# Altium schematic symbol library ICs.SchLib: 168 symbols (part 1 of 2)
Pins are listed as number, name and electrical type; pins without a type are passive.

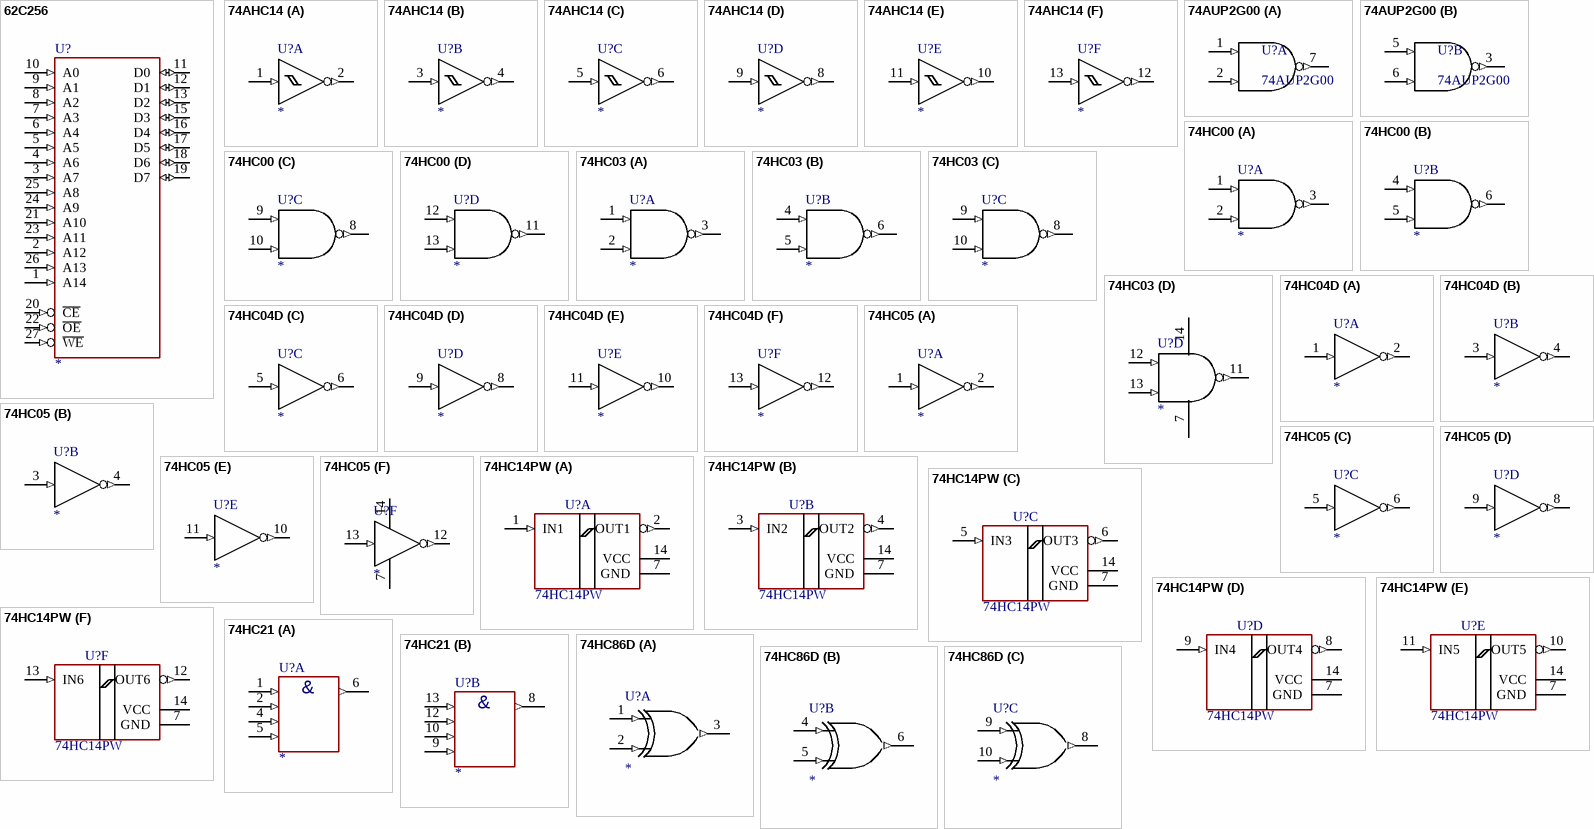
[diagram p0: symbols 62C256 to 74HC86D]

## 62C256
designator U?
32Kx8 Static RAM; Вид: Мікросхема
footprint SO28
pins: 1 A14 (in), 2 A12 (in), 3 A7 (in), 4 A6 (in), 5 A5 (in), 6 A4 (in), 7 A3 (in), 8 A2 (in), 9 A1 (in), 10 A0 (in), 11 D0 (io), 12 D1 (io), 13 D2 (io), 14 GND-D (power) hidden to GND-D, 15 D3 (io), 16 D4 (io), 17 D5 (io), 18 D6 (io), 19 D7 (io), 20 ~{CE} (in), 21 A10 (in), 22 ~{OE} (in), 23 A11 (in), 24 A9 (in), 25 A8 (in), 26 A13 (in), 27 ~{WE} (in), 28 VCC (power) hidden to VCC

## 74AHC14
designator U?
Hex Inverter With Schmitt Trigger; Вид: Мікросхема
footprint SO-14 (SOIC, 14-Leads, Body 8,65x3,90mm, Pitch 1,27mm, IPC Medium Density)
footprint SSOP-14 (TSOP, 14-Leads, Body 5,00x4,40mm, Pitch 0,65mm, IPC Medium Density)
part A pins: 1 A (in), 2 Y (out), 7 GND-D (power) hidden to GND-D, 14 VCC (power) hidden to VCC
part B pins: 3 A (in), 4 Y (out), 7 GND-D (power) hidden to GND-D, 14 VCC (power) hidden to VCC
part C pins: 5 A (in), 6 Y (out), 7 GND-D (power) hidden to GND-D, 14 VCC (power) hidden to VCC
part D pins: 7 GND-D (power) hidden to GND-D, 8 Y (out), 9 A (in), 14 VCC (power) hidden to VCC
part E pins: 7 GND-D (power) hidden to GND-D, 10 Y (out), 11 A (in), 14 VCC (power) hidden to VCC
part F pins: 7 GND-D (power) hidden to GND-D, 12 Y (out), 13 A (in), 14 VCC (power) hidden to VCC

## 74AUP2G00
designator U?
ultra low power dual 2NAND gate; Вид: Мікросхема
footprint SSOP8(SOT505-2) (Small Outline Pkg (SOP), 0.65 mm pitch; 8 pin, 3.00 mm L X 3.00 mm W X 1.10 mm H body)
footprint VSSOP8(SOT765-1) (Small Outline Pkg (SOP), 0.50 mm pitch; 8 pin, 2.00 mm L X 2.30 mm W X 1.00 mm H body)
part A pins: 1 A (in), 2 B (in), 4 GND (power) hidden, 7 Y (out), 8 VCC (power) hidden
part B pins: 3 Y (out), 4 GND (power) hidden, 5 A (in), 6 B (in), 8 VCC (power) hidden

## 74HC00
designator U?
Quadruple 2-Input Positive-NAND Gate; Вид: Мікросхема
footprint SO-14 (SOIC, 14-Leads, Body 8,65x3,90mm, Pitch 1,27mm, IPC Medium Density)
footprint SSOP-14 (TSOP, 14-Leads, Body 5,00x4,40mm, Pitch 0,65mm, IPC Medium Density)
part A pins: 1 A (in), 2 B (in), 3 Y (out), 7 GND-D (power) hidden to GND-D, 14 VCC (power) hidden to VCC
part B pins: 4 A (in), 5 B (in), 6 Y (out), 7 GND-D (power) hidden to GND-D, 14 VCC (power) hidden to VCC
part C pins: 7 GND-D (power) hidden to GND-D, 8 Y (out), 9 A (in), 10 B (in), 14 VCC (power) hidden to VCC
part D pins: 7 GND-D (power) hidden to GND-D, 11 Y (out), 12 A (in), 13 B (in), 14 VCC (power) hidden to VCC

## 74HC03
designator U?
Quadruple 2-Input Positive-NAND Gate; Вид: Мікросхема
footprint SO-14 (SOIC, 14-Leads, Body 8,65x3,90mm, Pitch 1,27mm, IPC Medium Density)
footprint SSOP-14 (TSOP, 14-Leads, Body 5,00x4,40mm, Pitch 0,65mm, IPC Medium Density)
part A pins: 1 A (in), 2 B (in), 3 Y (out)
part B pins: 4 A (in), 5 B (in), 6 Y (out)
part C pins: 8 Y (out), 9 A (in), 10 B (in)
part D pins: 7 GND-D (power), 11 Y (out), 12 A (in), 13 B (in), 14 VCC (power)

## 74HC04D
designator U?
Hex Inverter; Вид: Мікросхема
footprint SO-14 (SOIC, 14-Leads, Body 8,65x3,90mm, Pitch 1,27mm, IPC Medium Density)
footprint SSOP-14 (TSOP, 14-Leads, Body 5,00x4,40mm, Pitch 0,65mm, IPC Medium Density)
part A pins: 1 A (in), 2 Y (out), 7 GND-D (power) hidden to GND-D, 14 VCC (power) hidden to VCC
part B pins: 3 A (in), 4 Y (out), 7 GND-D (power) hidden to GND-D, 14 VCC (power) hidden to VCC
part C pins: 5 A (in), 6 Y (out), 7 GND-D (power) hidden to GND-D, 14 VCC (power) hidden to VCC
part D pins: 7 GND-D (power) hidden to GND-D, 8 Y (out), 9 A (in), 14 VCC (power) hidden to VCC
part E pins: 7 GND-D (power) hidden to GND-D, 10 Y (out), 11 A (in), 14 VCC (power) hidden to VCC
part F pins: 7 GND-D (power) hidden to GND-D, 12 Y (out), 13 A (in), 14 VCC (power) hidden to VCC

## 74HC05
designator U?
Hex Inverter With Open Colector; Вид: Мікросхема
footprint SO-14 (SOIC, 14-Leads, Body 8,65x3,90mm, Pitch 1,27mm, IPC Medium Density)
footprint SSOP-14 (TSOP, 14-Leads, Body 5,00x4,40mm, Pitch 0,65mm, IPC Medium Density)
part A pins: 1 A (in), 2 Y (out)
part B pins: 3 A (in), 4 Y (out)
part C pins: 5 A (in), 6 Y (out)
part D pins: 8 Y (out), 9 A (in)
part E pins: 10 Y (out), 11 A (in)
part F pins: 7 GND-D (power), 12 Y (out), 13 A (in), 14 VCC (power)

## 74HC14PW
designator U?
Hex inverting Schmitt trigger, TSSOP14, Minimum 2V; Вид: Мікросхема
footprint SSOP-14 (TSOP, 14-Leads, Body 5,00x4,40mm, Pitch 0,65mm, IPC Medium Density)
pins on every part: 7 GND (power), 14 VCC (power)
part A pins: 1 IN1 (in), 2 OUT1 (out)
part B pins: 3 IN2 (in), 4 OUT2 (out)
part C pins: 5 IN3 (in), 6 OUT3 (out)
part D pins: 8 OUT4 (out), 9 IN4 (in)
part E pins: 10 OUT5 (out), 11 IN5 (in)
part F pins: 12 OUT6 (out), 13 IN6 (in)

## 74HC21
designator U?
Dual 4-Input Positive-AND Gate; Вид: Мікросхема
footprint SO-14 (SOIC, 14-Leads, Body 8,65x3,90mm, Pitch 1,27mm, IPC Medium Density)
footprint SSOP-14 (TSOP, 14-Leads, Body 5,00x4,40mm, Pitch 0,65mm, IPC Medium Density)
part A pins: 1 A (in), 2 B (in), 4 C (in), 5 D (in), 6 Y (out)
part B pins: 7 GND-D (power) hidden to GND-D, 8 Y (out), 9 A (in), 10 B (in), 12 C (in), 13 D (in), 14 VCC (power) hidden to VCC
part A text: &
part B text: &

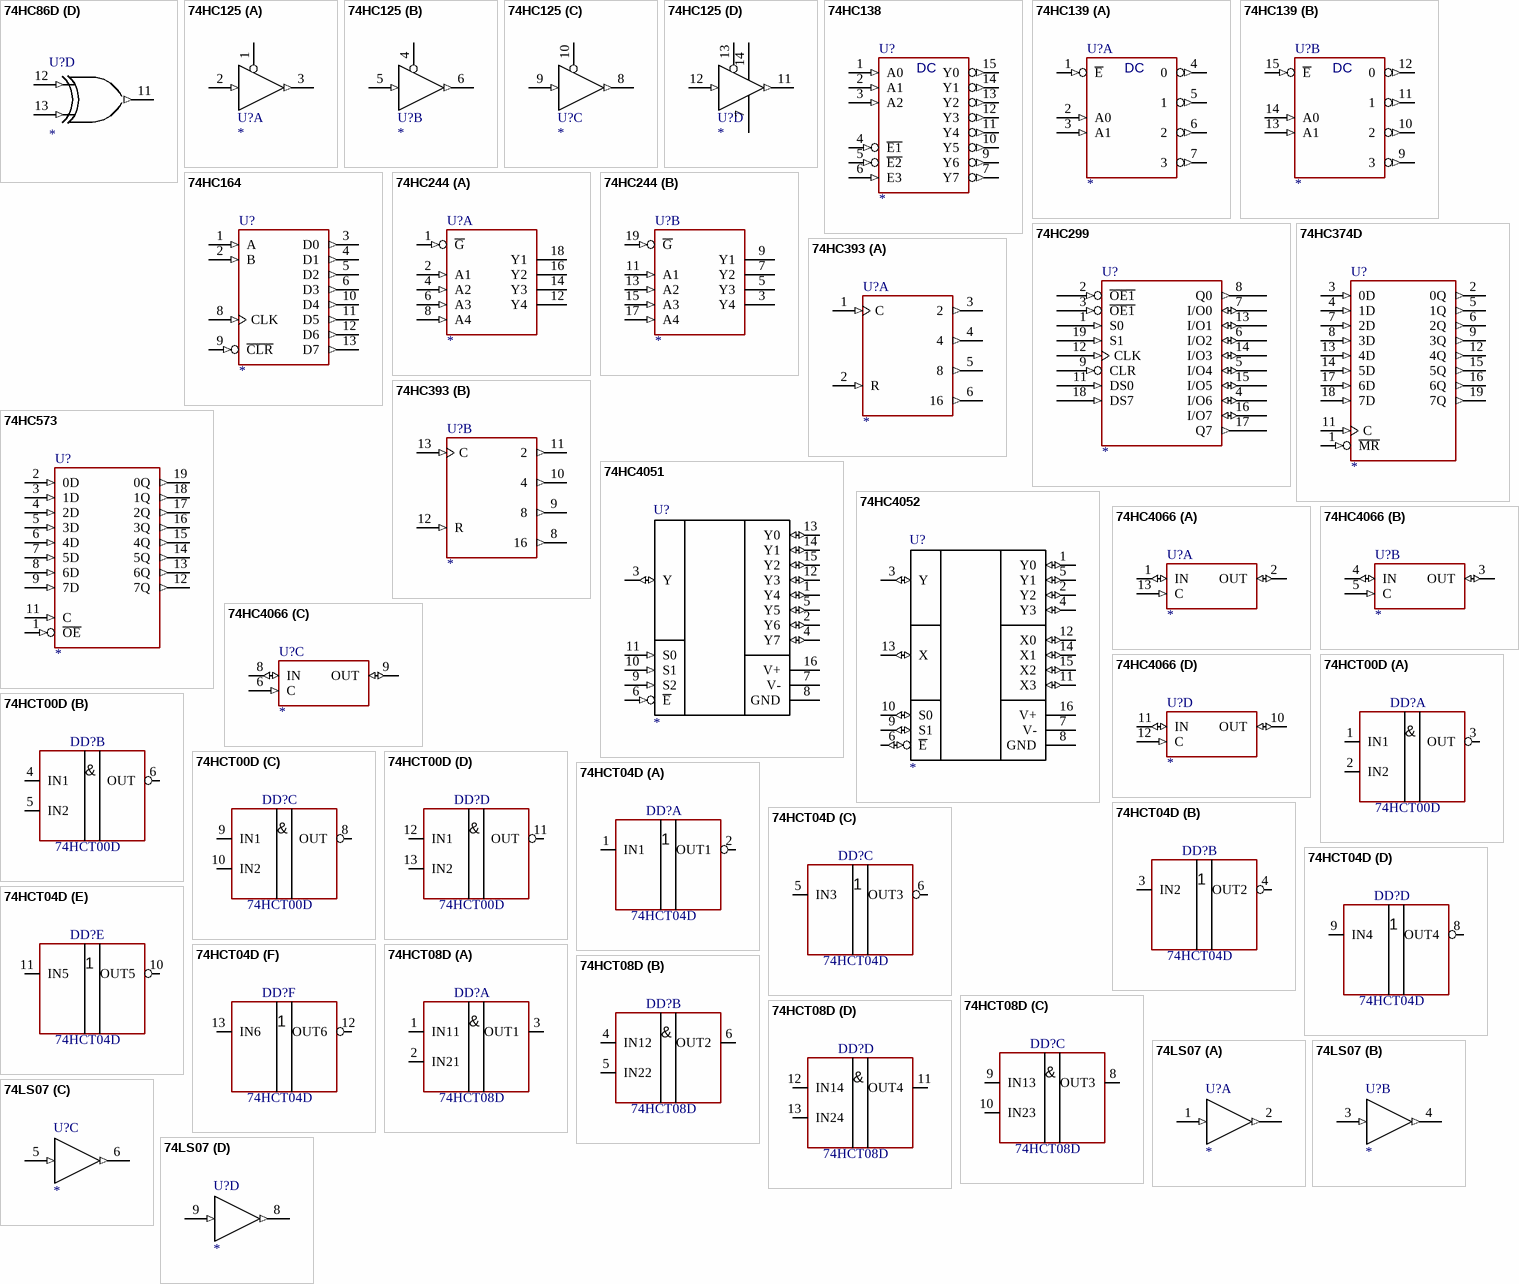
[diagram p1: symbols 74HC86D to 74LS07]

## 74HC86D
designator U?
Quadruple 2-Input Exclusive-OR Gate; Вид: Мікросхема
footprint SO-14 (SOIC, 14-Leads, Body 8,65x3,90mm, Pitch 1,27mm, IPC Medium Density)
footprint SSOP-14 (TSOP, 14-Leads, Body 5,00x4,40mm, Pitch 0,65mm, IPC Medium Density)
part A pins: 1 A (in), 2 B (in), 3 Y (out), 7 GND-D (power) hidden to GND-D, 14 VCC (power) hidden to VCC
part B pins: 4 A (in), 5 B (in), 6 Y (out), 7 GND-D (power) hidden to GND-D, 14 VCC (power) hidden to VCC
part C pins: 7 GND-D (power) hidden to GND-D, 8 Y (out), 9 A (in), 10 B (in), 14 VCC (power) hidden to VCC
part D pins: 7 GND-D (power) hidden to GND-D, 11 Y (out), 12 A (in), 13 B (in), 14 VCC (power) hidden to VCC

## 74HC125
designator U?
Four Buffers with Enable for HiZ state output; Вид: Мікросхема
footprint SO-14 (SOIC, 14-Leads, Body 8,65x3,90mm, Pitch 1,27mm, IPC Medium Density)
footprint SSOP-14 (TSOP, 14-Leads, Body 5,00x4,40mm, Pitch 0,65mm, IPC Medium Density)
part A pins: 1 ~{-Ea}, 2 A (in), 3 Ya (out)
part B pins: 4 ~{-Eb}, 5 B (in), 6 Yb (out)
part C pins: 8 Yc (out), 9 C (in), 10 ~{-Ec}
part D pins: 7 GND-D (power), 11 Yd (out), 12 D (in), 13 ~{-Ed}, 14 VCC (power)

## 74HC138
designator U?
4-Bit Synchronous Up / Down Binary Counter; Вид: Мікросхема
footprint SO-16 (SOIC, 16-Leads, Body 9,90x3,90mm, Pitch 1,27mm, IPC Medium Density)
footprint SSOP-16 (TSOP, 16-Leads, Body 5,00x4,40mm, Pitch 0,65mm, IPC Medium Density)
pins: 1 A0 (in), 2 A1 (in), 3 A2 (in), 4 ~{E1} (in), 5 ~{E2} (in), 6 E3 (in), 7 Y7 (out), 8 GND-D (power) hidden to GND-D, 9 Y6 (out), 10 Y5 (out), 11 Y4 (out), 12 Y3 (out), 13 Y2 (out), 14 Y1 (out), 15 Y0 (out), 16 VCC (power) hidden to VCC
text: DC

## 74HC139
designator U?
4-Bit Synchronous Up / Down Binary Counter; Вид: Мікросхема
footprint SO-16 (SOIC, 16-Leads, Body 9,90x3,90mm, Pitch 1,27mm, IPC Medium Density)
part A pins: 1 ~{E} (in), 2 A0 (in), 3 A1 (in), 4 0 (out), 5 1 (out), 6 2 (out), 7 3 (out), 8 GND-D (power) hidden to GND-D, 16 VCC (power) hidden to VCC
part B pins: 8 GND (power) hidden to GND, 9 3 (out), 10 2 (out), 11 1 (out), 12 0 (out), 13 A1 (in), 14 A0 (in), 15 ~{E} (in), 16 VCC (power) hidden to VCC
part A text: DC
part B text: DC

## 74HC164
designator U?
8-Bit Parallel-Out Serial Shift Register; Вид: Мікросхема
footprint SO-14 (SOIC, 14-Leads, Body 8,65x3,90mm, Pitch 1,27mm, IPC Medium Density)
pins: 1 A (in), 2 B (in), 3 D0 (out), 4 D1 (out), 5 D2 (out), 6 D3 (out), 7 GND-D (power) hidden to GND-D, 8 CLK (in), 9 ~{CLR} (in), 10 D4 (out), 11 D5 (out), 12 D6 (out), 13 D7 (out), 14 VCC (power) hidden to VCC

## 74HC244
designator U?
OCTAL BUF AND LIN DRV; Вид: Мікросхема
footprint SSOP-20 (TSOP, 20-Leads, Body 6,50x4,40mm, Pitch 0,65mm, IPC Medium Density)
part A pins: 1 ~{G} (in), 2 A1 (in), 4 A2 (in), 6 A3 (in), 8 A4 (in), 10 GND-D (power) hidden to GND-D, 12 Y4 (hiz), 14 Y3 (hiz), 16 Y2 (hiz), 18 Y1 (hiz), 20 VCC (power) hidden to VCC
part B pins: 3 Y4 (hiz), 5 Y3 (hiz), 7 Y2 (hiz), 9 Y1 (hiz), 10 GND-D (power) hidden to GND-D, 11 A1 (in), 13 A2 (in), 15 A3 (in), 17 A4 (in), 19 ~{G} (in), 20 VCC (power) hidden to VCC
1 alternate drawing of the same symbol

## 74HC299
designator U?
8-BIT UNIVERSAL SFT/STORAGE REG; Вид: Мікросхема
footprint SSOP-20 (TSOP, 20-Leads, Body 6,50x4,40mm, Pitch 0,65mm, IPC Medium Density)
pins: 1 S0 (in), 2 ~{OE1} (in), 3 ~{OE1} (in), 4 I/O6 (io), 5 I/O4 (io), 6 I/O2 (io), 7 I/O0 (io), 8 Q0 (out), 9 CLR (in), 10 GND (power) hidden to GND, 11 DS0 (in), 12 CLK (in), 13 I/O1 (io), 14 I/O3 (io), 15 I/O5 (io), 16 I/O7 (io), 17 Q7 (out), 18 DS7 (in), 19 S1 (in), 20 VCC (power) hidden to VCC

## 74HC374D
designator U?
Octal D-Type Latch with reset; Вид: Мікросхема
footprint SSOP-20 (TSOP, 20-Leads, Body 6,50x4,40mm, Pitch 0,65mm, IPC Medium Density)
pins: 1 ~{MR} (in), 2 0Q (out), 3 0D (in), 4 1D (in), 5 1Q (out), 6 2Q (out), 7 2D (in), 8 3D (in), 9 3Q (out), 10 GND-D (power) hidden to GND-D, 11 C (in), 12 4Q (out), 13 4D (in), 14 5D (in), 15 5Q (out), 16 6Q (out), 17 6D (in), 18 7D (in), 19 7Q (out), 20 VCC (power) hidden to VCC

## 74HC393
designator U?
Dual 4-Bit Binary Counter; Вид: Мікросхема
footprint SO-14 (SOIC, 14-Leads, Body 8,65x3,90mm, Pitch 1,27mm, IPC Medium Density)
part A pins: 1 C (in), 2 R (in), 3 2 (out), 4 (out), 5 8 (out), 6 16 (out), 7 GND-D (power) hidden to GND-D, 14 VCC (power) hidden to VCC
part B pins: 7 GND-D (power) hidden to GND-D, 8 16 (out), 9 8 (out), 10 4 (out), 11 2 (out), 12 R (in), 13 C (in), 14 VCC (power) hidden to VCC

## 74HC573
designator U?
Octal D-Type Latch with open drine output; Вид: Мікросхема
footprint SSOP-20 (TSOP, 20-Leads, Body 6,50x4,40mm, Pitch 0,65mm, IPC Medium Density)
pins: 1 ~{OE} (in), 2 0D (in), 3 1D (in), 4 2D (in), 5 3D (in), 6 4D (in), 7 5D (in), 8 6D (in), 9 7D (in), 10 GND-D (power) hidden to GND-D, 11 C (in), 12 7Q (out), 13 6Q (out), 14 5Q (out), 15 4Q (out), 16 3Q (out), 17 2Q (out), 18 1Q (out), 19 0Q (out), 20 VCC (power) hidden to VCC

## 74HC4051
designator U?
Single 8-Channel Analog Multiplexer/Demultiplexer; Вид: Мікросхема
footprint SO-16 (SOIC, 16-Leads, Body 9,90x3,90mm, Pitch 1,27mm, IPC Medium Density)
footprint SSOP-16 (TSOP, 16-Leads, Body 5,00x4,40mm, Pitch 0,65mm, IPC Medium Density)
pins: 1 Y4 (io), 2 Y6 (io), 3 Y (io), 4 Y7 (io), 5 Y5 (io), 6 ~{E} (in), 7 V- (power), 8 GND (power), 9 S2 (in), 10 S1 (in), 11 S0 (in), 12 Y3 (io), 13 Y0 (io), 14 Y1 (io), 15 Y2 (io), 16 V+ (power)

## 74HC4052
designator U?
Dual 4-Channel Analog Multiplexer/Demultiplexer; Вид: Мікросхема
footprint SO-16 (SOIC, 16-Leads, Body 9,90x3,90mm, Pitch 1,27mm, IPC Medium Density)
footprint SSOP-16 (TSOP, 16-Leads, Body 5,00x4,40mm, Pitch 0,65mm, IPC Medium Density)
pins: 1 Y0 (io), 2 Y2 (io), 3 Y (io), 4 Y3 (io), 5 Y1 (io), 6 ~{E} (io), 7 V- (power), 8 GND (power), 9 S1 (io), 10 S0 (io), 11 X3 (io), 12 X0 (io), 13 X (io), 14 X1 (io), 15 X2 (io), 16 V+ (power)

## 74HC4066
designator U?
QUAD ANALOG SWITCH; Вид: Мікросхема
footprint SO-14 (SOIC, 14-Leads, Body 8,65x3,90mm, Pitch 1,27mm, IPC Medium Density)
part A pins: 1 IN (io), 2 OUT (io), 7 GND-D (power) hidden to GND-D, 13 C (in), 14 VCC (power) hidden to VCC
part B pins: 3 OUT (io), 4 IN (io), 5 C (in), 7 GND-D (power) hidden to GND-D, 14 VCC (power) hidden to VCC
part C pins: 6 C (in), 7 GND-D (power) hidden to GND-D, 8 IN (io), 9 OUT (io), 14 VCC (power) hidden to VCC
part D pins: 7 GND-D (power) hidden to GND-D, 10 OUT (io), 11 IN (io), 12 C (in), 14 VCC (power) hidden to VCC
1 alternate drawing of the same symbol

## 74HCT00D
designator DD?
quad 2-input NAND gate, SOIC; Вид: Мікросхема
footprint SO-14 (SOIC, 14-Leads, Body 8,65x3,90mm, Pitch 1,27mm, IPC Medium Density)
pins on every part: 7 GND (power) hidden to GND, 14 VCC (power) hidden to +5V_drv
part A pins: 1 IN1, 2 IN2, 3 OUT
part B pins: 4 IN1, 5 IN2, 6 OUT
part C pins: 8 OUT, 9 IN1, 10 IN2
part D pins: 11 OUT, 12 IN1, 13 IN2
part A text: &
part B text: &
part C text: &
part D text: &

## 74HCT04D
designator DD?
Hex inverter, SOIC; Вид: Мікросхема
footprint SO-14 (SOIC, 14-Leads, Body 8,65x3,90mm, Pitch 1,27mm, IPC Medium Density)
pins on every part: 7 GND (power) hidden to GND, 14 VCC (power) hidden to +5V_drv
part A pins: 1 IN1, 2 OUT1
part B pins: 3 IN2, 4 OUT2
part C pins: 5 IN3, 6 OUT3
part D pins: 8 OUT4, 9 IN4
part E pins: 10 OUT5, 11 IN5
part F pins: 12 OUT6, 13 IN6

## 74HCT08D
designator DD?
quad 2-input AND gate, SOIC; Вид: Мікросхема
footprint SO-14 (SOIC, 14-Leads, Body 8,65x3,90mm, Pitch 1,27mm, IPC Medium Density)
pins on every part: 7 GND (power) hidden to GND, 14 VCC (power) hidden to +5V_drv
part A pins: 1 IN11, 2 IN21, 3 OUT1
part B pins: 4 IN12, 5 IN22, 6 OUT2
part C pins: 8 OUT3, 9 IN13, 10 IN23
part D pins: 11 OUT4, 12 IN14, 13 IN24
part A text: &
part B text: &
part C text: &
part D text: &

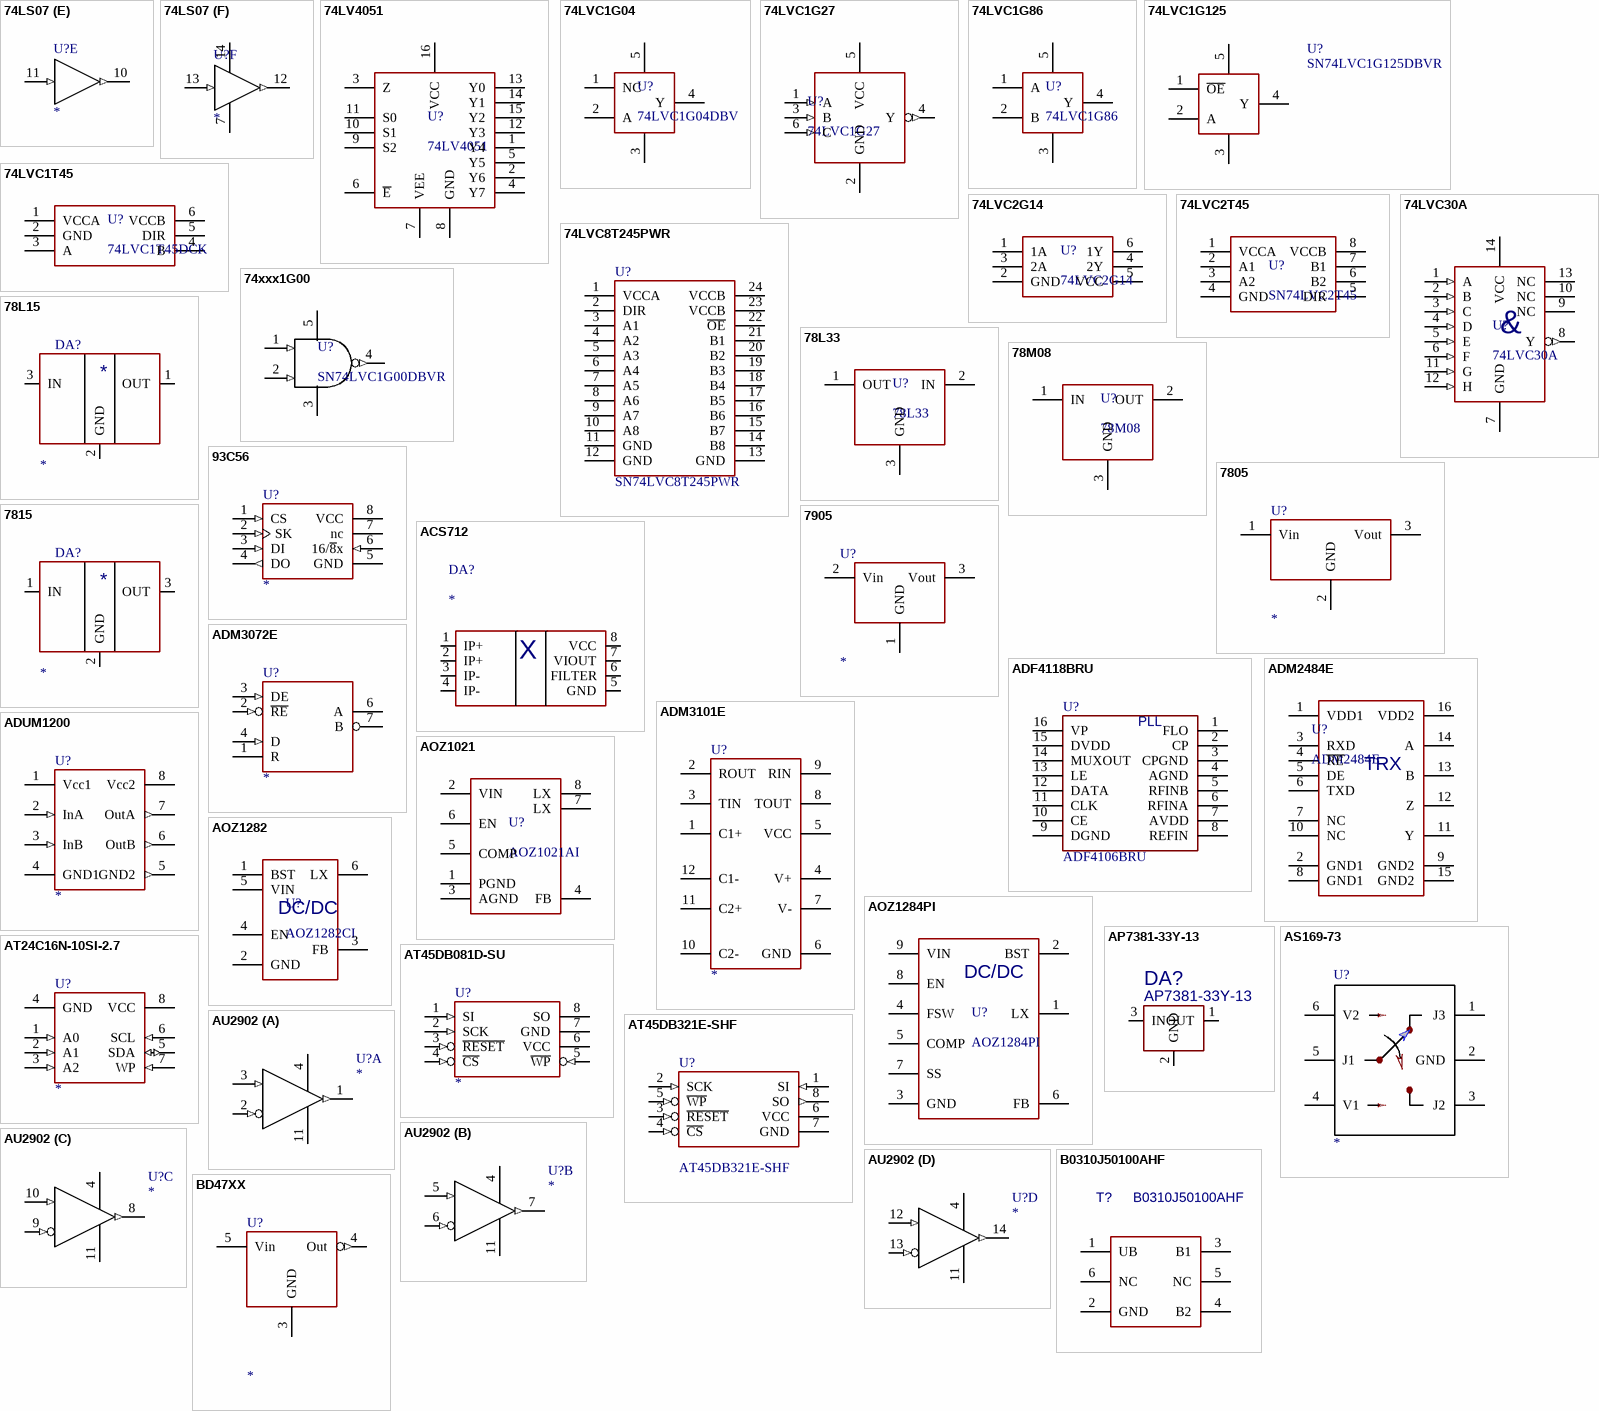
[diagram p2: symbols 74LS07 to BD47XX]

## 74LS07
designator U?
Six buffers with OC; Вид: Мікросхема
footprint SO-14 (SOIC, 14-Leads, Body 8,65x3,90mm, Pitch 1,27mm, IPC Medium Density)
part A pins: 1 A (in), 2 Y (out)
part B pins: 3 A (in), 4 Y (out)
part C pins: 5 A (in), 6 Y (out)
part D pins: 8 Y (out), 9 A (in)
part E pins: 10 Y (out), 11 A (in)
part F pins: 7 GND-D (power), 12 Y (out), 13 A (in), 14 VCC (power)

## 74LV4051
designator U?
Вид: Мікросхема
footprint SSOP-16 (TSOP, 16-Leads, Body 5,00x4,40mm, Pitch 0,65mm, IPC Medium Density)
pins: 1 Y4, 2 Y6, 3 Z, 4 Y7, 5 Y5, 6 ~{E}, 7 VEE, 8 GND, 9 S2, 10 S1, 11 S0, 12 Y3, 13 Y0, 14 Y1, 15 Y2, 16 VCC

## 74LVC1G04
designator U?, comment 74LVC1G04DBV
footprint SOT-23-5 (SOT23, 5-Leads, Body 2,90x2,45mm, Pitch 0,95mm, IPC Medium Density)
pins: 1 NC, 2 A, 3 GND, 4 Y, 5 VCC

## 74LVC1G27
designator U?
Вид: Мікросхема
footprint SOT-23-6 (SOT23, 6-Leads, Body 2,90x2,45mm, Pitch 0,95mm, IPC Medium Density)
pins: 1 A (in), 2 GND, 3 B (in), 4 Y (out), 5 VCC, 6 C (in)

## 74LVC1G86
designator U?
footprint SOT-23-5 (SOT23, 5-Leads, Body 2,90x2,45mm, Pitch 0,95mm, IPC Medium Density)
pins: 1 A, 2 B, 3 GND, 4 Y, 5 VCC

## 74LVC1G125
designator U?, comment SN74LVC1G125DBVR
Вид: Мікросхема; Номінал: SN74LVC1G125DBVR
footprint SOT-23-5 (SOT23, 5-Leads, Body 2,90x2,45mm, Pitch 0,95mm, IPC Medium Density)
pins: 1 ~{OE}, 2 A, 3 GND, 4 Y, 5 VCC

## 74LVC1T45
designator U?, comment 74LVC1T45DCK
Вид: Мікросхема
footprint SOT-23-6 (SOT23, 6-Leads, Body 2,90x2,45mm, Pitch 0,95mm, IPC Medium Density)
pins: 1 VCCA, 2 GND, 3 A, 4 B, 5 DIR, 6 VCCB

## 74LVC2G14
designator U?
Вид: Мікросхема
footprint SOT-23-6 (SOT23, 6-Leads, Body 2,90x2,45mm, Pitch 0,95mm, IPC Medium Density)
pins: 1 1A, 2 GND, 3 2A, 4 2Y, 5 VCC, 6 1Y

## 74LVC2T45
designator U?, comment SN74LVC2T45
Вид: Мікросхема
footprint SSOP-8 (Small Outline Pkg (SOP), 0.65 mm pitch; 8 pin, 3.00 mm L X 3.00 mm W X 1.10 mm H body)
pins: 1 VCCA, 2 A1, 3 A2, 4 GND, 5 DIR, 6 B2, 7 B1, 8 VCCB

## 74LVC8T245PWR
designator U?, comment SN74LVC8T245PWR
Вид: Мікросхема
footprint TSSOP-24 (Small Outline Pkg (SOP), 0.65 mm pitch; 24 pin, 7.80 mm L X 4.40 mm W X 1.10 mm H body)
pins: 1 VCCA, 2 DIR, 3 A1, 4 A2, 5 A3, 6 A4, 7 A5, 8 A6, 9 A7, 10 A8, 11 GND, 12 GND, 13 GND, 14 B8, 15 B7, 16 B6, 17 B5, 18 B4, 19 B3, 20 B2, 21 B1, 22 ~{OE}, 23 VCCB, 24 VCCB

## 74LVC30A
designator U?
Вид: Мікросхема
footprint SSOP-14 (TSOP, 14-Leads, Body 5,00x4,40mm, Pitch 0,65mm, IPC Medium Density)
pins: 1 A (in), 2 B (in), 3 C (in), 4 D (in), 5 E (in), 6 F (in), 7 GND, 8 Y (out), 9 NC, 10 NC, 11 G (in), 12 H (in), 13 NC, 14 VCC
text: &

## 74xxx1G00
designator U?, comment SN74LVC1G00DBVR
Вид: Мікросхема
footprint SOT-23-5 (SOT23, 5-Leads, Body 2,90x2,45mm, Pitch 0,95mm, IPC Medium Density)
pins: 1 A (in), 2 B (in), 3 GND, 4 Y (out), 5 VCC

## 78L15
designator DA?
Вид: Мікросхема
pins: 1 OUT, 2 GND, 3 IN

## 78L33
designator U?
Вид: Мікросхема
footprint SOT89 (SOT89, 3-Leads, Body 4,50x2,45mm, Pitch 1,50mm, Lead Span 4,1mm, IPC Medium Density)
pins: 1 OUT, 2 IN, 3 GND

## 78M08
designator U?
Вид: Мікросхема
footprint DPAK3
pins: 1 IN, 2 OUT, 3 GND

## 93C56
designator U?
3-wire EEPROM; Вид: Мікросхема
footprint SO-8 (SOIC, 8-Leads, Body 4,90x3,90mm, Pitch 1,27mm, IPC Medium Density)
pins: 1 CS (in), 2 SK (in), 3 DI (in), 4 DO (out), 5 GND (power), 6 16/~{8}x (in), 7 nc, 8 VCC (power)

## 7805
designator U?
5V voltage regulator; Вид: Мікросхема
footprint DPAK3
pins: 1 Vin (power), 2 GND (power), 3 Vout (power)

## 7815
designator DA?
Вид: Мікросхема
footprint DPAK3
pins: 1 IN, 2 GND, 3 OUT

## 7905
designator U?
-5V voltage regulator; Вид: Мікросхема
footprint DPAK3
pins: 1 GND (power), 2 Vin (power), 3 Vout (power)

## ACS712
designator DA?
Вид: Мікросхема
footprint SO-8 (SOIC, 8-Leads, Body 4,90x3,90mm, Pitch 1,27mm, IPC Medium Density)
pins: 1 IP+, 2 IP+, 3 IP-, 4 IP-, 5 GND, 6 FILTER, 7 VIOUT, 8 VCC
text: X

## ADF4118BRU
designator U?, comment ADF4106BRU
footprint SSOP-16 (TSOP, 16-Leads, Body 5,00x4,40mm, Pitch 0,65mm, IPC Medium Density)
pins: 1 FLO, 2 CP, 3 CPGND, 4 AGND, 5 RFINB, 6 RFINA, 7 AVDD, 8 REFIN, 9 DGND, 10 CE, 11 CLK, 12 DATA, 13 LE, 14 MUXOUT, 15 DVDD, 16 VP
text: PLL

## ADM2484E
designator U?
Вид: Мікросхема
footprint SO-16W (SOIC, 16-Leads, Body 10,30x7,50mm, Pitch 1,27mm, IPC Medium Density)
pins: 1 VDD1, 2 GND1, 3 RXD, 4 ~{RE}, 5 DE, 6 TXD, 7 NC, 8 GND1, 9 GND2, 10 NC, 11 Y, 12 Z, 13 B, 14 A, 15 GND2, 16 VDD2
text: TRX

## ADM3072E
designator U?
DIFFERENTIAL  RS485 BUS TRANSCEIVERS; Вид: Мікросхема
footprint SO-8 (SOIC, 8-Leads, Body 4,90x3,90mm, Pitch 1,27mm, IPC Medium Density)
pins: 1 R (hiz), 2 ~{RE} (in), 3 DE (in), 4 D (in), 5 GND (power) hidden to GND, 6 A (hiz), 7 B (hiz), 8 VCC (power) hidden to VCC
1 alternate drawing of the same symbol

## ADM3101E
designator U?
Вид: Мікросхема
footprint PQFN12 (Pullback Quad Flat No-Lead (PQFN), 0.50 mm pitch; square, 4 pin X 2 pin, 2.00 mm L X 2.00 mm W X 0.70 mm H body)
footprint PQFN12_W
pins: 1 C1+, 2 ROUT, 3 TIN, 4 V+, 5 VCC, 6 GND, 7 V-, 8 TOUT, 9 RIN, 10 C2-, 11 C2+, 12 C1-

## ADUM1200
designator U?
WatchDog Supervisory Circuits; Вид: Мікросхема
footprint SO-8 (SOIC, 8-Leads, Body 4,90x3,90mm, Pitch 1,27mm, IPC Medium Density)
pins: 1 Vcc1, 2 InA (in), 3 InB (in), 4 GND1 (power), 5 GND2 (out), 6 OutB (out), 7 OutA (out), 8 Vcc2

## AOZ1021
designator U?, comment AOZ1021AI
Вид: Мікросхема
footprint SO-8 (SOIC, 8-Leads, Body 4,90x3,90mm, Pitch 1,27mm, IPC Medium Density)
pins: 1 PGND, 2 VIN, 3 AGND, 4 FB, 5 COMP, 6 EN, 7 LX, 8 LX

## AOZ1282
designator U?, comment AOZ1282CI
Вид: Мікросхема
footprint SOT-23-6 (SOT23, 6-Leads, Body 2,90x2,45mm, Pitch 0,95mm, IPC Medium Density)
pins: 1 BST, 2 GND, 3 FB, 4 EN, 5 VIN, 6 LX
text: DC/DC

## AOZ1284PI
designator U?
Вид: Мікросхема
footprint SO-8EP9 (SOIC, 8-Leads, Body 4,90x3,90mm, Pitch 1,27mm, IPC Medium Density)
pins: 1 LX, 2 BST, 3 GND, 4 FSW, 5 COMP, 6 FB, 7 SS, 8 EN, 9 VIN
text: DC/DC

## AP7381-33Y-13
designator DA?
Linear Voltage Regulator IC Positive Fixed 1 Output 150mA SOT-89-3; Library Part: IC`s.SchLib; Manufacturer: Diodes Incorporated; Mounting  Method: SMD; IC Type: LDO; Part Number: AP7381-33Y-13; Footprint Part: IC-package.PcbLib; Package: SOT-89-3; Part Type: IC; Component Type: SMD; Temperature Range: -40°C ~ 125°C (TJ); URL: https://www.diodes.com/assets/Datasheets/AP7381.pdf
footprint SOT-89-3
pins: 1 OUT, 2 GND, 3 IN

## AS169-73
designator U?
SPDT Switch DC–2.5 GHz; Вид: Мікросхема
footprint SOT-23-6 (SOT23, 6-Leads, Body 2,90x2,45mm, Pitch 0,95mm, IPC Medium Density)
pins: 1 J3, 2 GND, 3 J2, 4 V1, 5 J1, 6 V2

## AT24C16N-10SI-2.7
designator U?
Serial EEPROM 16K (2048 x 8) 2.7V to 5.5V range; Вид: Мікросхема
footprint SO-8 (SOIC, 8-Leads, Body 4,90x3,90mm, Pitch 1,27mm, IPC Medium Density)
pins: 1 A0 (in), 2 A1 (in), 3 A2 (in), 4 GND, 5 SDA (io), 6 SCL (in), 7 WP (in), 8 VCC

## AT45DB081D-SU
designator U?
8-Mb 2.7V Flash; Вид: Мікросхема
pins: 1 SI (in), 2 SCK (in), 3 ~{RESET} (in), 4 ~{CS} (in), 5 ~{WP} (in), 6 VCC (power), 7 GND (power), 8 SO (hiz)

## AT45DB321E-SHF
designator U?
32-Mbit DataFlash, 2.3V minimum, SPI, 8-lead 0.208" wide SOIC; Вид: Мікросхема
pins: 1 SI (in), 2 SCK (in), 3 ~{RESET} (in), 4 ~{CS} (in), 5 ~{WP} (in), 6 VCC (power), 7 GND (power), 8 SO (out)

## AU2902
designator U?
operational amplifier; Вид: Мікросхема
footprint SO-14 (SOIC, 14-Leads, Body 8,65x3,90mm, Pitch 1,27mm, IPC Medium Density)
part A pins: 1 out (out), 2 IN- (in), 3 IN+ (in), 4 +V (power), 11 -V (power)
part B pins: 4 +V (power), 5 IN+ (in), 6 IN- (in), 7 out (out), 11 -V (power)
part C pins: 4 +V (power), 8 out (out), 9 IN- (in), 10 IN+ (in), 11 -V (power)
part D pins: 4 +V (power), 11 -V (power), 12 IN+ (in), 13 IN- (in), 14 out (out)

## B0310J50100AHF
designator T?
Value: HMC8073LP3DE; Вид: Мікросхема
footprint BAL_TTM
pins: 1 UB, 2 GND, 3 B1, 4 B2, 5 NC, 6 NC

## BD47XX
designator U?
Precision Supply Voltage Supervision; Вид: Мікросхема
footprint SOT-23-5
pins: 1 nc (hiz) hidden to nc, 2 Sub hidden to Sub, 3 GND (power), 4 Out (out), 5 Vin (power)

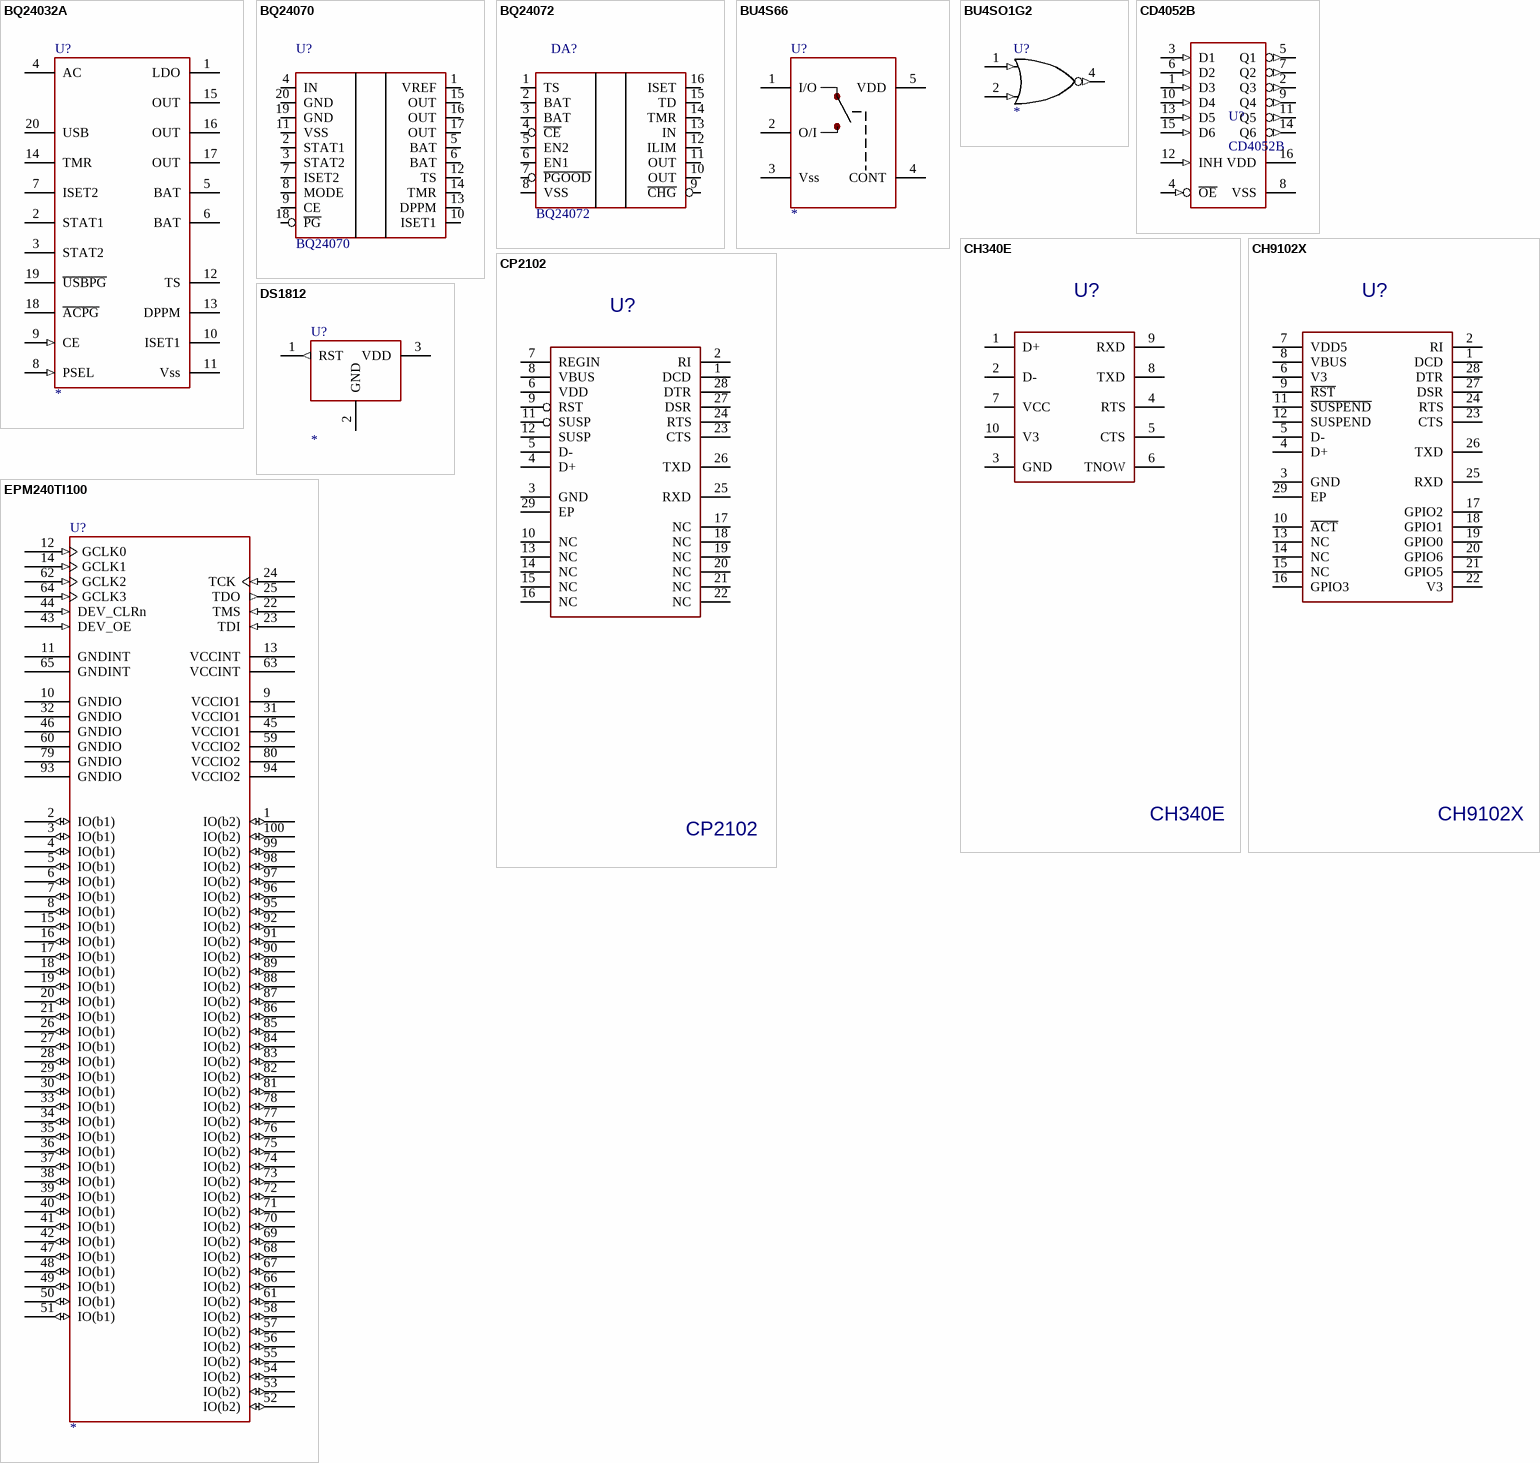
[diagram p3: symbols BQ24032A to EPM240TI100]

## BQ24032A
designator U?
POWER-PATH MANAGEMENT IC; Вид: Мікросхема
pins: 1 LDO (power), 2 STAT1 (oc), 3 STAT2 (oc), 4 AC (power), 5 BAT (power), 6 BAT (power), 7 ISET2, 8 PSEL (in), 9 CE (in), 10 ISET1, 11 Vss (power), 12 TS, 13 DPPM, 14 TMR, 15 OUT (power), 16 OUT (power), 17 OUT (power), 18 ~{ACPG} (oc), 19 ~{USBPG} (oc), 20 USB (power)

## BQ24070
designator U?
Single-Chip Li-Ion Charge and System Power-Path Management IC; Вид: Мікросхема
pins: 1 VREF (power), 2 STAT1, 3 STAT2, 4 IN, 5 BAT, 6 BAT, 7 ISET2, 8 MODE, 9 CE, 10 ISET1, 11 VSS, 12 TS, 13 DPPM, 14 TMR, 15 OUT, 16 OUT, 17 OUT, 18 ~{PG}, 19 GND, 20 GND

## BQ24072
designator DA?
1.5A USB-FRIENDLY Li-Ion BATTERY CHARGER AND POWER-PATH MANAGEMENT IC; Вид: Мікросхема
pins: 1 TS (power), 2 BAT, 3 BAT, 4 ~{CE}, 5 EN2, 6 EN1, 7 ~{PGOOD}, 8 VSS, 9 ~{CHG}, 10 OUT, 11 OUT, 12 ILIM, 13 IN, 14 TMR, 15 TD, 16 ISET, 17 TP hidden to GND_digital

## BU4S66
designator U?
Analog switch; Вид: Мікросхема
footprint SOT-23-5
pins: 1 I/O, 2 O/I, 3 Vss, 4 CONT, 5 VDD

## BU4SO1G2
designator U?
Logic; Вид: Мікросхема
footprint SOT-23-5
pins: 1 in (in), 2 in2 (in), 3 GND-D (power) hidden to GND-D, 4 out (out), 5 VCC (power) hidden to VCC

## CD4052B
designator U?
Вид: Мікросхема
footprint SO-16 (SOIC, 16-Leads, Body 9,90x3,90mm, Pitch 1,27mm, IPC Medium Density)
pins: 1 D3 (in), 2 Q3 (out), 3 D1 (in), 4 ~{OE} (in), 5 Q1 (out), 6 D2 (in), 7 Q2 (out), 8 VSS (power), 9 Q4 (out), 10 D4 (in), 11 Q5 (out), 12 INH (in), 13 D5 (in), 14 Q6 (out), 15 D6 (in), 16 VDD (power)

## CH340E
designator U?
Value: {Value}; Mounting  Method: SMD
footprint MSOP-10 (Small Outline Pkg (SOP), 0.50 mm pitch; 10 pin, 3.00 mm L X 3.00 mm W X 1.10 mm H body)
pins: 1 D+, 2 D-, 3 GND, 4 RTS, 5 CTS, 6 TNOW, 7 VCC, 8 TXD, 9 RXD, 10 V3

## CH9102X
designator U?
Value: {Value}; Mounting  Method: SMD
footprint QFN28
pins: 1 DCD, 2 RI, 3 GND, 4 D+, 5 D-, 6 V3, 7 VDD5, 8 VBUS, 9 ~{RST}, 10 ~{ACT}, 11 ~{SUSPEND}, 12 SUSPEND, 13 NC, 14 NC, 15 NC, 16 GPIO3, 17 GPIO2, 18 GPIO1, 19 GPIO0, 20 GPIO6, 21 GPIO5, 22 V3, 23 CTS, 24 RTS, 25 RXD, 26 TXD, 27 DSR, 28 DTR, 29 EP

## CP2102
designator U?
Value: {Value}; Mounting  Method: SMD
footprint QFN28
pins: 1 DCD, 2 RI, 3 GND, 4 D+, 5 D-, 6 VDD, 7 REGIN, 8 VBUS, 9 RST, 10 NC, 11 SUSP, 12 SUSP, 13 NC, 14 NC, 15 NC, 16 NC, 17 NC, 18 NC, 19 NC, 20 NC, 21 NC, 22 NC, 23 CTS, 24 RTS, 25 RXD, 26 TXD, 27 DSR, 28 DTR, 29 EP

## DS1812
designator U?
Power supervisor; Вид: Мікросхема
footprint SOT-23
pins: 1 RST (out), 2 GND (power), 3 VDD (power)

## EPM240TI100
designator U?
MAXII EEPROM–based PLD (192macro cells); Вид: Мікросхема
footprint LQFP-100 (TSQFP, 100-Leads, Body 14,00x14,00mm, Pitch 0,50mm, IPC Medium Density)
pins: 1 IO(b2) (io), 2 IO(b1) (io), 3 IO(b1) (io), 4 IO(b1) (io), 5 IO(b1) (io), 6 IO(b1) (io), 7 IO(b1) (io), 8 IO(b1) (io), 9 VCCIO1 (power), 10 GNDIO (power), 11 GNDINT (power), 12 GCLK0 (in), 13 VCCINT (power), 14 GCLK1 (in), 15 IO(b1) (io), 16 IO(b1) (io), 17 IO(b1) (io), 18 IO(b1) (io), 19 IO(b1) (io), 20 IO(b1) (io), 21 IO(b1) (io), 22 TMS (in), 23 TDI (in), 24 TCK (in), 25 TDO (out), 26 IO(b1) (io), 27 IO(b1) (io), 28 IO(b1) (io), 29 IO(b1) (io), 30 IO(b1) (io), 31 VCCIO1 (power), 32 GNDIO (power), 33 IO(b1) (io), 34 IO(b1) (io), 35 IO(b1) (io), 36 IO(b1) (io), 37 IO(b1) (io), 38 IO(b1) (io), 39 IO(b1) (io), 40 IO(b1) (io), 41 IO(b1) (io), 42 IO(b1) (io), 43 DEV_OE (in), 44 DEV_CLRn (in), 45 VCCIO1 (power), 46 GNDIO (power), 47 IO(b1) (io), 48 IO(b1) (io), 49 IO(b1) (io), 50 IO(b1) (io), 51 IO(b1) (io), 52 IO(b2) (io), 53 IO(b2) (io), 54 IO(b2) (io), 55 IO(b2) (io), 56 IO(b2) (io), 57 IO(b2) (io), 58 IO(b2) (io), 59 VCCIO2 (power), 60 GNDIO (power), 61 IO(b2) (io), 62 GCLK2 (in), 63 VCCINT (power), 64 GCLK3 (in), 65 GNDINT (power), 66 IO(b2) (io), 67 IO(b2) (io), 68 IO(b2) (io), 69 IO(b2) (io), 70 IO(b2) (io), 71 IO(b2) (io), 72 IO(b2) (io), 73 IO(b2) (io), 74 IO(b2) (io), 75 IO(b2) (io), 76 IO(b2) (io), 77 IO(b2) (io), 78 IO(b2) (io), 79 GNDIO (power), 80 VCCIO2 (power), 81 IO(b2) (io), 82 IO(b2) (io), 83 IO(b2) (io), 84 IO(b2) (io), 85 IO(b2) (io), 86 IO(b2) (io), 87 IO(b2) (io), 88 IO(b2) (io), 89 IO(b2) (io), 90 IO(b2) (io), 91 IO(b2) (io), 92 IO(b2) (io), 93 GNDIO (power), 94 VCCIO2 (power), 95 IO(b2) (io), 96 IO(b2) (io), 97 IO(b2) (io), 98 IO(b2) (io), 99 IO(b2) (io), 100 IO(b2) (io)

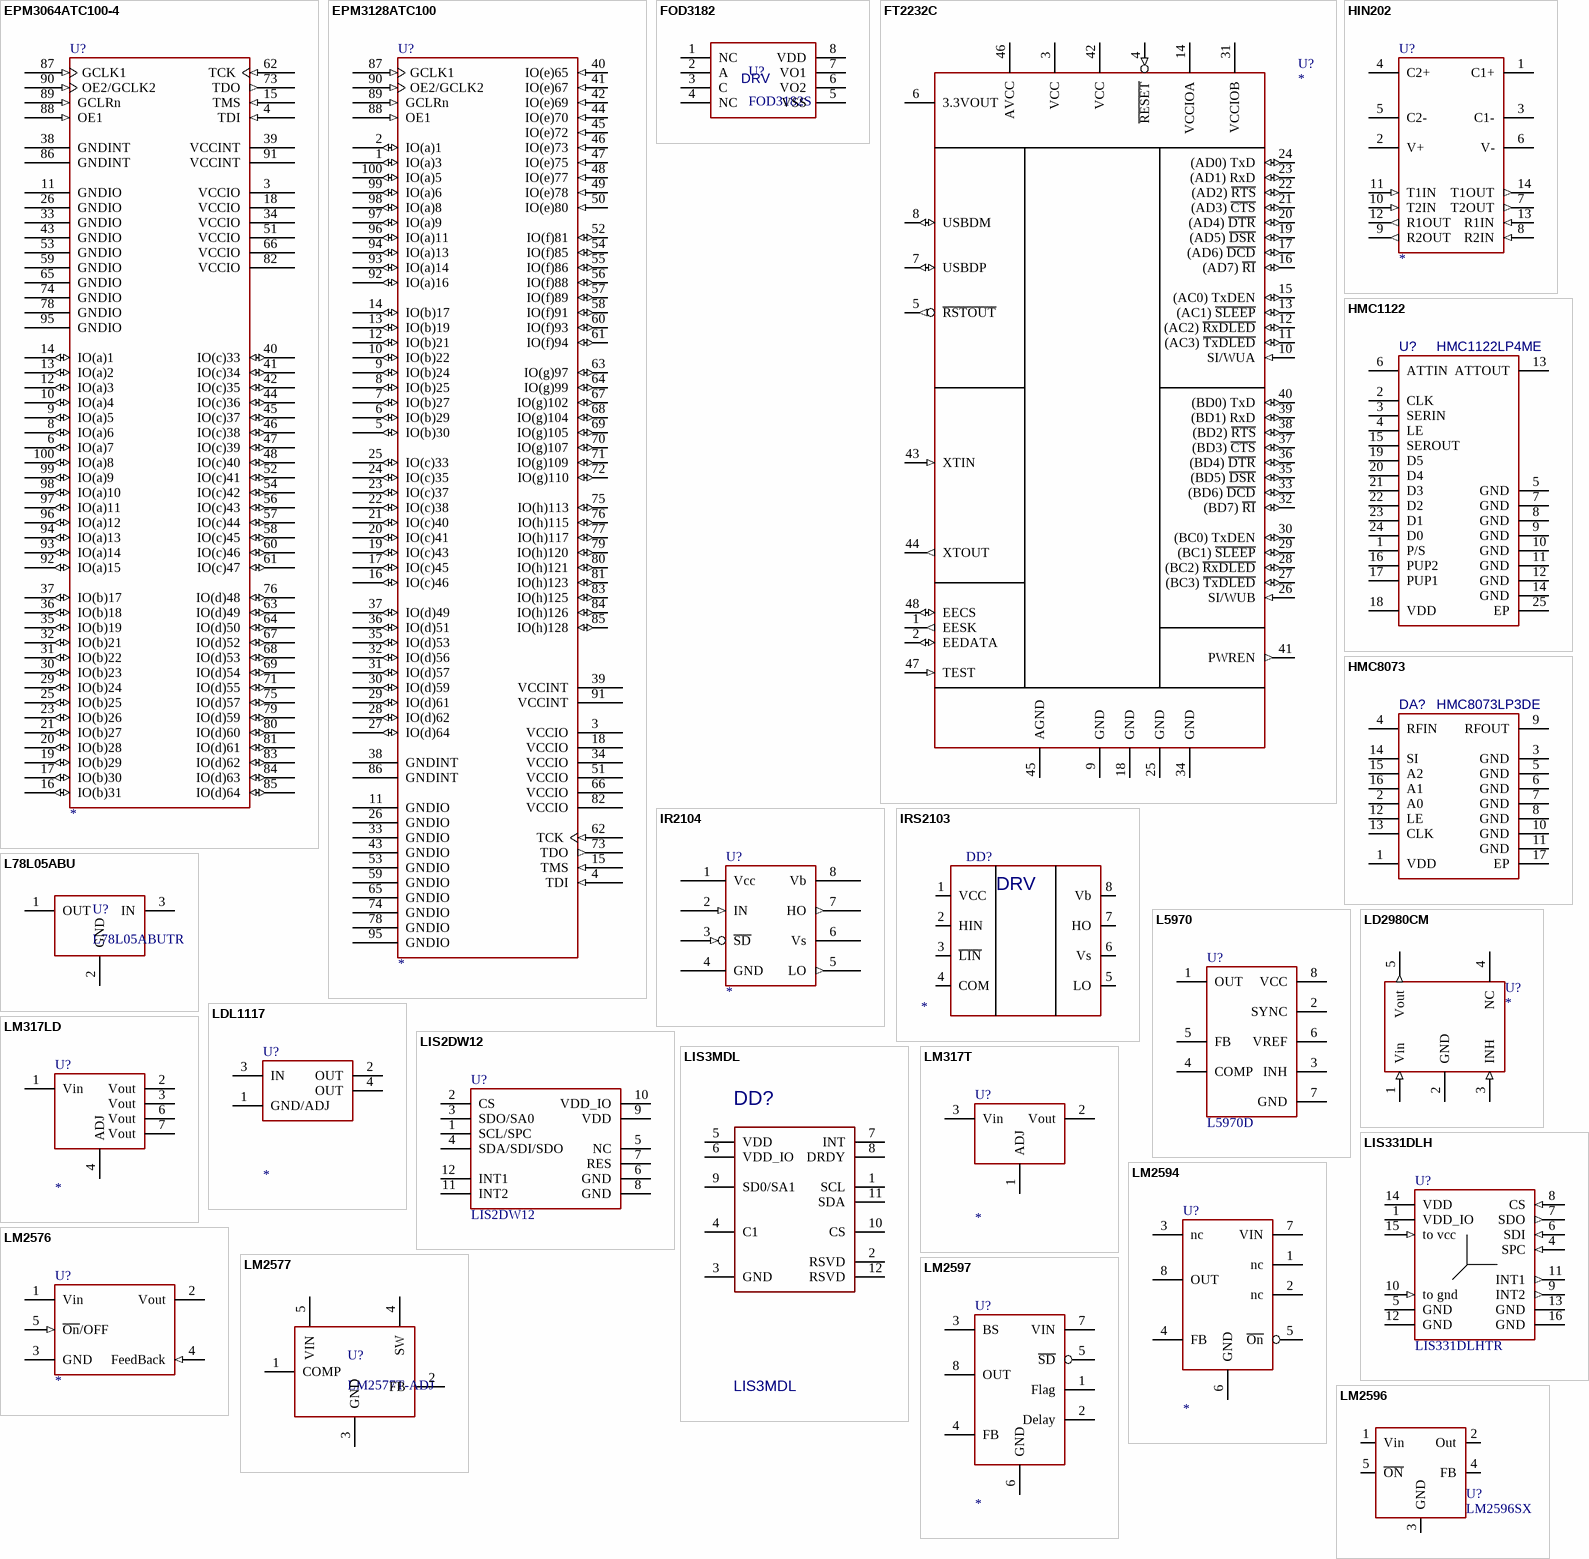
[diagram p4: symbols EPM3064ATC100-4 to LM2597]

## EPM3064ATC100-4
designator U?
MAX3000A EEPROM–based PLD (64macro cells); Вид: Мікросхема
footprint LQFP-100 (TSQFP, 100-Leads, Body 14,00x14,00mm, Pitch 0,50mm, IPC Medium Density)
pins: 3 VCCIO (power), 4 TDI (in), 6 IO(a)7 (io), 8 IO(a)6 (io), 9 IO(a)5 (io), 10 IO(a)4 (io), 11 GNDIO (power), 12 IO(a)3 (io), 13 IO(a)2 (io), 14 IO(a)1 (io), 15 TMS (in), 16 IO(b)31 (io), 17 IO(b)30 (io), 18 VCCIO (power), 19 IO(b)29 (io), 20 IO(b)28 (io), 21 IO(b)27 (io), 23 IO(b)26 (io), 25 IO(b)25 (io), 26 GNDIO (power), 29 IO(b)24 (io), 30 IO(b)23 (io), 31 IO(b)22 (io), 32 IO(b)21 (io), 33 GNDIO (power), 34 VCCIO (power), 35 IO(b)19 (io), 36 IO(b)18 (io), 37 IO(b)17 (io), 38 GNDINT (power), 39 VCCINT (power), 40 IO(c)33 (io), 41 IO(c)34 (io), 42 IO(c)35 (io), 43 GNDIO (power), 44 IO(c)36 (io), 45 IO(c)37 (io), 46 IO(c)38 (io), 47 IO(c)39 (io), 48 IO(c)40 (io), 51 VCCIO (power), 52 IO(c)41 (io), 53 GNDIO (power), 54 IO(c)42 (io), 56 IO(c)43 (io), 57 IO(c)44 (io), 58 IO(c)45 (io), 59 GNDIO (power), 60 IO(c)46 (io), 61 IO(c)47 (io), 62 TCK (in), 63 IO(d)49 (io), 64 IO(d)50 (io), 65 GNDIO (power), 66 VCCIO (power), 67 IO(d)52 (io), 68 IO(d)53 (io), 69 IO(d)54 (io), 71 IO(d)55 (io), 73 TDO (out), 74 GNDIO (power), 75 IO(d)57 (io), 76 IO(d)48 (io), 78 GNDIO (power), 79 IO(d)59 (io), 80 IO(d)60 (io), 81 IO(d)61 (io), 82 VCCIO (power), 83 IO(d)62 (io), 84 IO(d)63 (io), 85 IO(d)64 (io), 86 GNDINT (power), 87 GCLK1 (in), 88 OE1 (in), 89 GCLRn (in), 90 OE2/GCLK2 (in), 91 VCCINT (power), 92 IO(a)15 (io), 93 IO(a)14 (io), 94 IO(a)13 (io), 95 GNDIO (power), 96 IO(a)12 (io), 97 IO(a)11 (io), 98 IO(a)10 (io), 99 IO(a)9 (io), 100 IO(a)8 (io)

## EPM3128ATC100
designator U?
MAX3000A EEPROM–based PLD (128macro cells); Вид: Мікросхема
footprint LQFP-100 (TSQFP, 100-Leads, Body 14,00x14,00mm, Pitch 0,50mm, IPC Medium Density)
pins: 1 IO(a)3 (io), 2 IO(a)1 (io), 3 VCCIO (power), 4 TDI (in), 5 IO(b)30 (io), 6 IO(b)29 (io), 7 IO(b)27 (io), 8 IO(b)25 (io), 9 IO(b)24 (io), 10 IO(b)22 (io), 11 GNDIO (power), 12 IO(b)21 (io), 13 IO(b)19 (io), 14 IO(b)17 (io), 15 TMS (in), 16 IO(c)46 (io), 17 IO(c)45 (io), 18 VCCIO (power), 19 IO(c)43 (io), 20 IO(c)41 (io), 21 IO(c)40 (io), 22 IO(c)38 (io), 23 IO(c)37 (io), 24 IO(c)35 (io), 25 IO(c)33 (io), 26 GNDIO (power), 27 IO(d)64 (io), 28 IO(d)62 (io), 29 IO(d)61 (io), 30 IO(d)59 (io), 31 IO(d)57 (io), 32 IO(d)56 (io), 33 GNDIO (power), 34 VCCIO (power), 35 IO(d)53 (io), 36 IO(d)51 (io), 37 IO(d)49 (io), 38 GNDINT (power), 39 VCCINT (power), 40 IO(e)65 (in), 41 IO(e)67 (in), 42 IO(e)69 (in), 43 GNDIO (power), 44 IO(e)70 (in), 45 IO(e)72 (in), 46 IO(e)73 (in), 47 IO(e)75 (in), 48 IO(e)77 (in), 49 IO(e)78 (in), 50 IO(e)80 (in), 51 VCCIO (power), 52 IO(f)81 (io), 53 GNDIO (power), 54 IO(f)85 (io), 55 IO(f)86 (io), 56 IO(f)88 (io), 57 IO(f)89 (io), 58 IO(f)91 (io), 59 GNDIO (power), 60 IO(f)93 (io), 61 IO(f)94 (io), 62 TCK (in), 63 IO(g)97 (io), 64 IO(g)99 (io), 65 GNDIO (power), 66 VCCIO (power), 67 IO(g)102 (io), 68 IO(g)104 (io), 69 IO(g)105 (io), 70 IO(g)107 (io), 71 IO(g)109 (io), 72 IO(g)110 (io), 73 TDO (out), 74 GNDIO (power), 75 IO(h)113 (io), 76 IO(h)115 (io), 77 IO(h)117 (io), 78 GNDIO (power), 79 IO(h)120 (io), 80 IO(h)121 (io), 81 IO(h)123 (io), 82 VCCIO (power), 83 IO(h)125 (io), 84 IO(h)126 (io), 85 IO(h)128 (io), 86 GNDINT (power), 87 GCLK1 (in), 88 OE1 (in), 89 GCLRn (in), 90 OE2/GCLK2 (in), 91 VCCINT (power), 92 IO(a)16 (io), 93 IO(a)14 (io), 94 IO(a)13 (io), 95 GNDIO (power), 96 IO(a)11 (io), 97 IO(a)9 (io), 98 IO(a)8 (io), 99 IO(a)6 (io), 100 IO(a)5 (io)

## FOD3182
designator U?, comment FOD3182S
Вид: Мікросхема
footprint SOIC8P254_HCPL (Small Outline IC (SOIC), 2.54 mm pitch; 8 pin, 9.655 mm L X 6.605 mm W X 5.08 mm H body)
pins: 1 NC, 2 A, 3 C, 4 NC, 5 VSS, 6 VO2, 7 VO1, 8 VDD
text: DRV

## FT2232C
designator U?
RS232/USB преобразователь; Вид: Мікросхема
footprint LQFP-48 (TSQFP, 48-Leads, Body 7,00x7,00mm, Pitch 0,50mm, IPC Medium Density)
pins: 1 EESK (out), 2 EEDATA (io), 3 VCC (power), 4 ~{RESET} (in), 5 ~{RSTOUT} (out), 6 3.3VOUT, 7 USBDP (io), 8 USBDM (io), 9 GND (power), 10 SI/WUA (in), 11 (AC3) ~{TxDLED} (io), 12 (AC2) ~{RxDLED} (io), 13 (AC1) ~{SLEEP} (io), 14 VCCIOA (power), 15 (AC0) TxDEN (io), 16 (AD7) ~{RI} (io), 17 (AD6) ~{DCD} (io), 18 GND (power), 19 (AD5) ~{DSR} (io), 20 (AD4) ~{DTR} (io), 21 (AD3) ~{CTS} (io), 22 (AD2) ~{RTS} (io), 23 (AD1) RxD (io), 24 (AD0) TxD (io), 25 GND (power), 26 SI/WUB (in), 27 (BC3) ~{TxDLED} (io), 28 (BC2) ~{RxDLED} (io), 29 (BC1) ~{SLEEP} (io), 30 (BC0) TxDEN (io), 31 VCCIOB (power), 32 (BD7) ~{RI} (io), 33 (BD6) ~{DCD} (io), 34 GND (power), 35 (BD5) ~{DSR} (io), 36 (BD4) ~{DTR} (io), 37 (BD3) ~{CTS} (io), 38 (BD2) ~{RTS} (io), 39 (BD1) RxD (io), 40 (BD0) TxD (io), 41 PWREN (out), 42 VCC (power), 43 XTIN (in), 44 XTOUT (out), 45 AGND (power), 46 AVCC (power), 47 TEST (in), 48 EECS (io)

## HIN202
designator U?
RS232 driver; Вид: Мікросхема
footprint SO-16 (SOIC, 16-Leads, Body 9,90x3,90mm, Pitch 1,27mm, IPC Medium Density)
footprint SO-16W (SOIC, 16-Leads, Body 10,30x7,50mm, Pitch 1,27mm, IPC Medium Density)
footprint SSOP-16 (TSOP, 16-Leads, Body 5,00x4,40mm, Pitch 0,65mm, IPC Medium Density)
pins: 1 C1+, 2 V+, 3 C1-, 4 C2+, 5 C2-, 6 V-, 7 T2OUT (out), 8 R2IN (in), 9 R2OUT (out), 10 T2IN (in), 11 T1IN (in), 12 R1OUT (out), 13 R1IN (in), 14 T1OUT (out), 15 GND-D (power) hidden to GND-D, 16 VCC (power) hidden to VCC

## HMC1122
designator U?, comment HMC1122LP4ME
Value: HMC8073LP3DE; Вид: Мікросхема
footprint QFN-24(4X4)
pins: 1 P/S, 2 CLK, 3 SERIN, 4 LE, 5 GND, 6 ATTIN, 7 GND, 8 GND, 9 GND, 10 GND, 11 GND, 12 GND, 13 ATTOUT, 14 GND, 15 SEROUT, 16 PUP2, 17 PUP1, 18 VDD, 19 D5, 20 D4, 21 D3, 22 D2, 23 D1, 24 D0, 25 EP

## HMC8073
designator DA?, comment HMC8073LP3DE
Вид: Мікросхема; Value: HMC8073LP3DE
footprint QFN16_3X3 (QFN, 16-Leads, Body 3,00x3,00mm, Pitch 0,50mm, Thermal Pad 1,70x1,70mm, IPC Medium Density)
footprint QFN16_PAD
pins: 1 VDD, 2 A0, 3 GND, 4 RFIN, 5 GND, 6 GND, 7 GND, 8 GND, 9 RFOUT, 10 GND, 11 GND, 12 LE, 13 CLK, 14 SI, 15 A2, 16 A1, 17 EP

## IR2104
designator U?
Bridge driver for 2 MOSFET; Вид: Мікросхема
footprint SO-8 (SOIC, 8-Leads, Body 4,90x3,90mm, Pitch 1,27mm, IPC Medium Density)
pins: 1 Vcc (power), 2 IN (in), 3 ~{SD} (in), 4 GND (power), 5 LO (out), 6 Vs, 7 HO (out), 8 Vb

## IRS2103
designator DD?
Вид: Мікросхема
footprint SO-8 (SOIC, 8-Leads, Body 4,90x3,90mm, Pitch 1,27mm, IPC Medium Density)
pins: 1 VCC (power), 2 HIN, 3 ~{LIN}, 4 COM, 5 LO, 6 Vs, 7 HO, 8 Vb
text: DRV

## L78L05ABU
designator U?, comment L78L05ABUTR
Вид: Мікросхема
footprint SOT89 (SOT89, 3-Leads, Body 4,50x2,45mm, Pitch 1,50mm, Lead Span 4,1mm, IPC Medium Density)
pins: 1 OUT, 2 GND, 3 IN

## L5970
designator U?, comment L5970D
1A Step-Down Switching Regulator; Вид: Мікросхема
footprint SO-8 (SOIC, 8-Leads, Body 4,90x3,90mm, Pitch 1,27mm, IPC Medium Density)
pins: 1 OUT, 2 SYNC, 3 INH, 4 COMP, 5 FB, 6 VREF, 7 GND, 8 VCC

## LD2980CM
designator U?
VERY LOW DROP VOLTAGE REGULATORS WITH INHIBIT; Вид: Мікросхема
footprint SOT-23-5
pins: 1 Vin (in), 2 GND (power), 3 INH (in), 4 NC, 5 Vout (out)

## LDL1117
designator U?
LOW CURRENT ADJUSTABLE  VOLTAGE REGULATOR; Вид: Мікросхема
footprint SOT223
pins: 1 GND/ADJ (power), 2 OUT (power), 3 IN (power), 4 OUT (power)

## LIS2DW12
designator U?
Вид: Мікросхема
footprint LGA-12 (2x2 mm accelerometer)
pins: 1 SCL/SPC, 2 CS, 3 SDO/SA0, 4 SDA/SDI/SDO, 5 NC, 6 GND, 7 RES, 8 GND, 9 VDD, 10 VDD_IO, 11 INT2, 12 INT1

## LIS3MDL
designator DD?
Magnetometer; Library Part: IC`s.SchLib; Manufacturer: Würth Elektronik; IC Type: Sensor; Part Number: LIS3MDL; Footprint Part: IC-package.PcbLib; Package: LGA-12; Part Type: IC; Component Type: SMD; Temperature Range: -40°C ~ 85°C (TA); URL: https://www.we-online.com/components/products/datasheet/2533020201601.pdf
footprint LGA-12 2533020201601
pins: 1 SCL, 2 RSVD, 3 GND, 4 C1, 5 VDD, 6 VDD_IO, 7 INT, 8 DRDY, 9 SD0/SA1, 10 CS, 11 SDA, 12 RSVD

## LIS331DLH
designator U?, comment LIS331DLHTR
3-Axis  Micromachined  Accelerometer; Вид: Мікросхема
footprint LGA-16_3x3
pins: 1 VDD_IO (power), 4 SPC (in), 5 GND (power), 6 SDI (in), 7 SDO (out), 8 CS (in), 9 INT2 (out), 10 to gnd (in), 11 INT1 (out), 12 GND (power), 13 GND (power), 14 VDD (power), 15 to vcc (in), 16 GND (power)

## LM317LD
designator U?
LOW CURRENT ADJUSTABLE  VOLTAGE REGULATOR; Вид: Мікросхема
footprint SO-8 (SOIC, 8-Leads, Body 4,90x3,90mm, Pitch 1,27mm, IPC Medium Density)
pins: 1 Vin (power), 2 Vout (power), 3 Vout (power), 4 ADJ (power), 6 Vout (power), 7 Vout (power)

## LM317T
designator U?
LOW CURRENT ADJUSTABLE  VOLTAGE REGULATOR; Вид: Мікросхема
pins: 1 ADJ (power), 2 Vout (power), 3 Vin (power)

## LM2576
designator U?
3A Step-Down Voltage Regulator; Вид: Мікросхема
footprint TO263-5
pins: 1 Vin (power), 2 Vout (power), 3 GND (power), 4 FeedBack (in), 5 ~{On}/OFF (in)

## LM2577
designator U?, comment LM2577T-ADJ
Вид: Мікросхема
footprint TO220-263-5H
footprint TO263-5
pins: 1 COMP, 2 FB, 3 GND, 4 SW, 5 VIN

## LM2594
designator U?
Вид: Мікросхема
footprint SO-8 (SOIC, 8-Leads, Body 4,90x3,90mm, Pitch 1,27mm, IPC Medium Density)
pins: 1 nc, 2 nc, 3 nc, 4 FB, 5 ~{On}, 6 GND, 7 VIN, 8 OUT

## LM2596
designator U?, comment LM2596SX
Power Converter 150 kHz  3A Step-Down Voltage Regulator; Вид: Мікросхема
footprint TO263-5
pins: 1 Vin, 2 Out, 3 GND, 4 FB, 5 ~{ON}

## LM2597
designator U?
Вид: Мікросхема
footprint SO-8 (SOIC, 8-Leads, Body 4,90x3,90mm, Pitch 1,27mm, IPC Medium Density)
pins: 1 Flag, 2 Delay, 3 BS, 4 FB, 5 ~{SD}, 6 GND, 7 VIN, 8 OUT

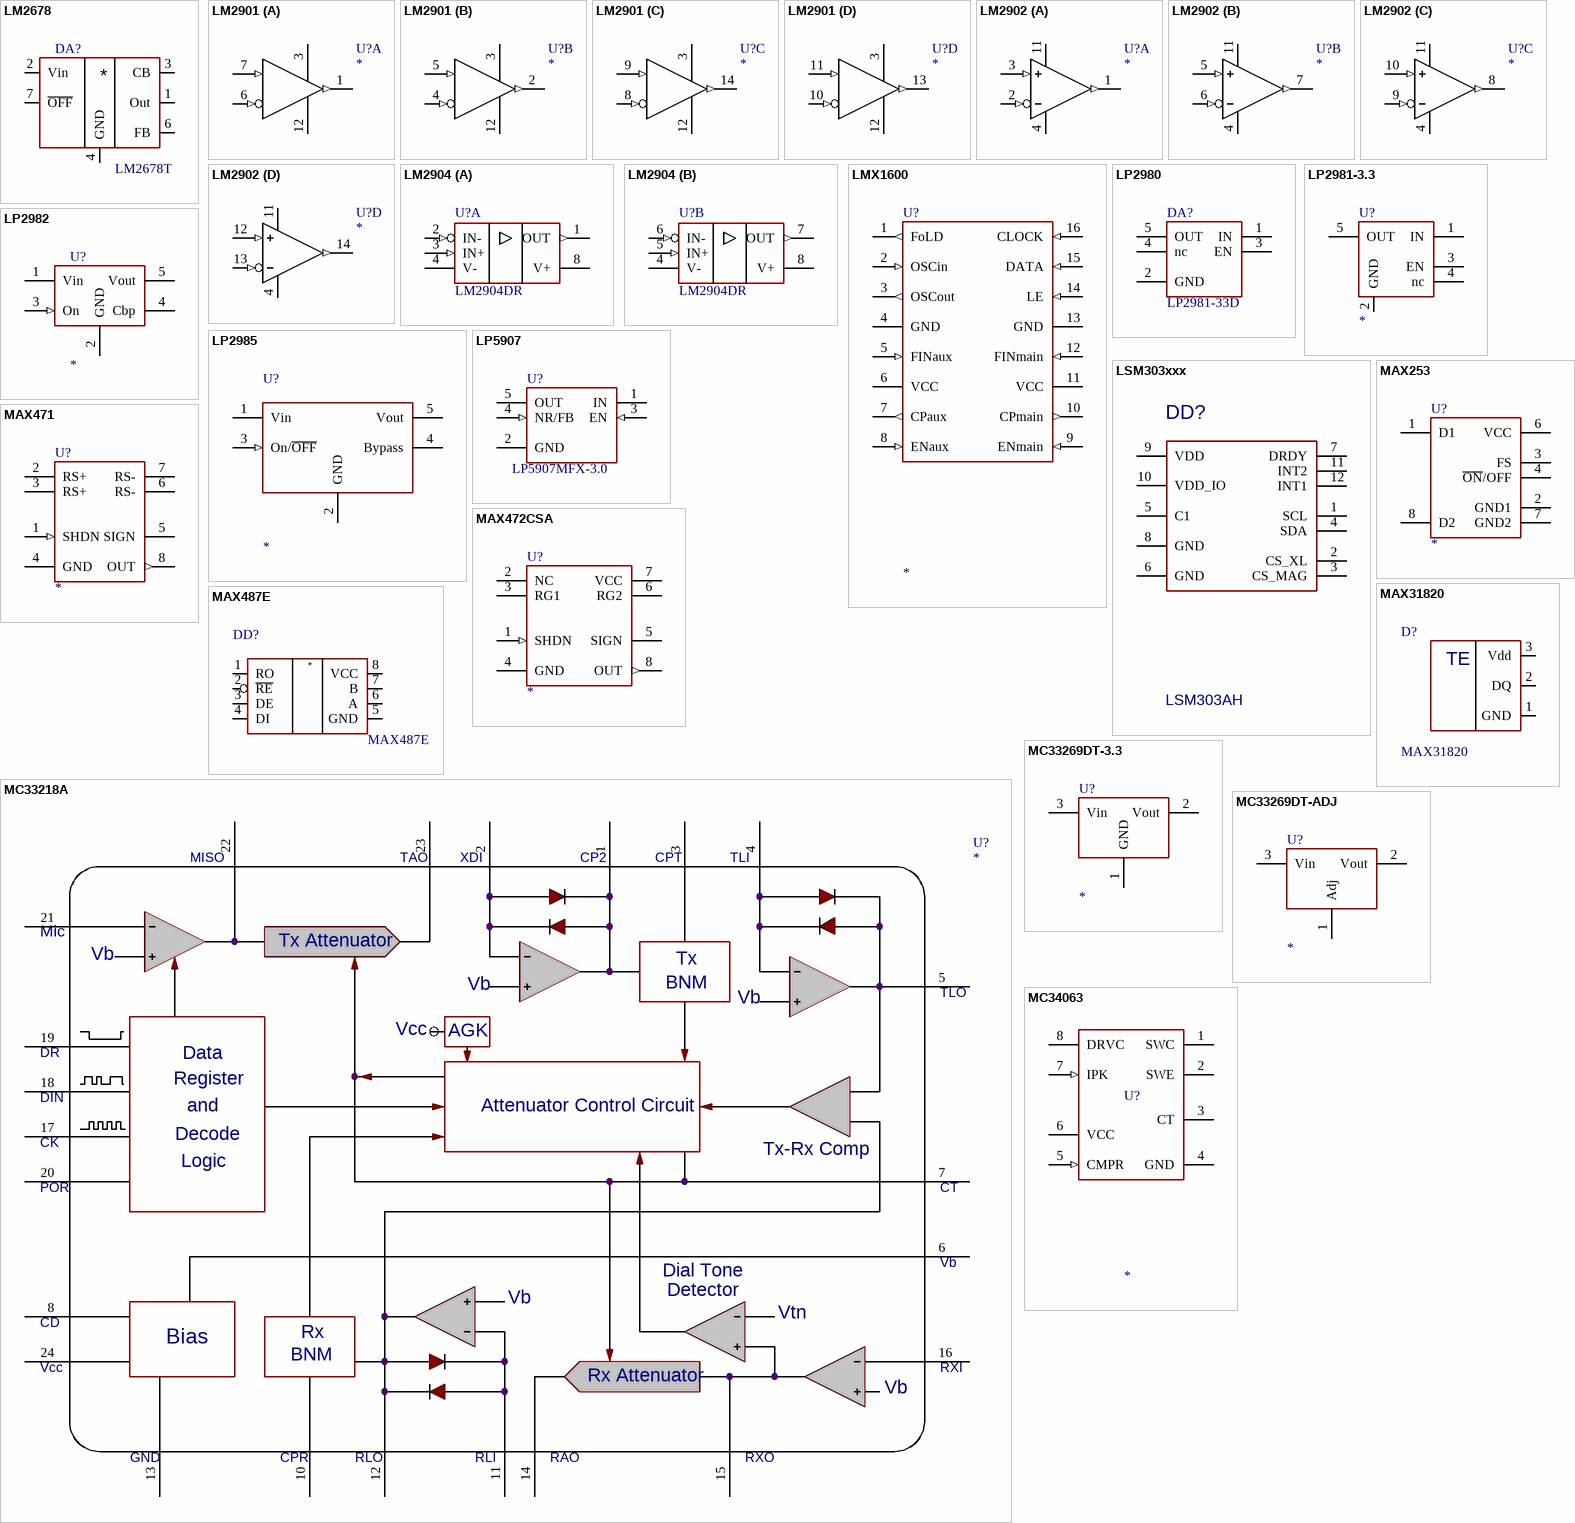
[diagram p5: symbols LM2678 to MC34063]

## LM2678
designator DA?, comment LM2678T
Power Converter 260 kHz  5A Step-Down Voltage Regulator; Вид: Мікросхема
pins: 1 Out, 2 Vin, 3 CB, 4 GND, 5 NC hidden, 6 FB, 7 ~{OFF}

## LM2901
designator U?
4 Operation amplifier; Вид: Мікросхема
footprint SO-14 (SOIC, 14-Leads, Body 8,65x3,90mm, Pitch 1,27mm, IPC Medium Density)
part A pins: 1 out (out), 3 +V (power), 6 IN- (in), 7 IN+ (in), 12 -V (power)
part B pins: 2 out (out), 3 +V (power), 4 IN- (in), 5 IN+ (in), 12 -V (power)
part C pins: 3 +V (power), 8 IN- (in), 9 IN+ (in), 12 -V (power), 14 out (out)
part D pins: 3 +V (power), 10 IN- (in), 11 IN+ (in), 12 -V (power), 13 out (out)

## LM2902
designator U?
4 Operation amplifier; Вид: Мікросхема
footprint SO-14 (SOIC, 14-Leads, Body 8,65x3,90mm, Pitch 1,27mm, IPC Medium Density)
part A pins: 1 OUT (out), 2 -IN (in), 3 +IN (in), 4 V- (power), 11 V+ (power)
part B pins: 4 V- (power), 5 +IN (in), 6 -IN (in), 7 OUT (out), 11 V+ (power)
part C pins: 4 V- (power), 8 OUT (out), 9 -IN (in), 10 +IN (in), 11 V+ (power)
part D pins: 4 V- (power), 11 V+ (power), 12 +IN (in), 13 -IN (in), 14 OUT (out)

## LM2904
designator U?, comment LM2904DR
Dual Operational Amplifiers, SOIC-8; Вид: Мікросхема
footprint SO-8 (SOIC, 8-Leads, Body 4,90x3,90mm, Pitch 1,27mm, IPC Medium Density)
pins on every part: 4 V- (power), 8 V+ (power)
part A pins: 1 OUT (out), 2 IN- (in), 3 IN+ (in)
part B pins: 5 IN+ (in), 6 IN- (in), 7 OUT (out)

## LMX1600
designator U?
1.3GHz low voltage fractional-N dual synthesizer; Вид: Мікросхема
footprint SSOP-16 (TSOP, 16-Leads, Body 5,00x4,40mm, Pitch 0,65mm, IPC Medium Density)
pins: 1 FoLD (out), 2 OSCin (in), 3 OSCout (out), 4 GND (power), 5 FINaux (in), 6 VCC (power), 7 CPaux (out), 8 ENaux (in), 9 ENmain (in), 10 CPmain (out), 11 VCC (power), 12 FINmain (in), 13 GND (power), 14 LE (in), 15 DATA (in), 16 CLOCK (in)

## LP2980
designator DA?, comment LP2981-33D
50mA Low-Dropout Regulator; Вид: Мікросхема
footprint SOT-23-5
pins: 1 IN, 2 GND, 3 EN, 4 nc, 5 OUT

## LP2981-3.3
designator U?
Вид: Мікросхема
footprint SOT-23-5
pins: 1 IN, 2 GND, 3 EN, 4 nc, 5 OUT

## LP2982
designator U?
50mA Ultra Low-Dropout Regulator; Вид: Мікросхема
footprint SOT-23-5
pins: 1 Vin (power), 2 GND (power), 3 On (in), 4 Cbp, 5 Vout (power)

## LP2985
designator U?
150mA Ultra Low-Dropout Regulator; Вид: Мікросхема
footprint SOT-23-5
pins: 1 Vin (power), 2 GND (power), 3 On/~{OFF} (in), 4 Bypass, 5 Vout (power)

## LP5907
designator U?, comment LP5907MFX-3.0
250mA Low-Dropout Regulator; Вид: Мікросхема
footprint SOT-23-5
pins: 1 IN (power), 2 GND (power), 3 EN (in), 4 NR/FB (in), 5 OUT (power)

## LSM303xxx
designator DD?, comment LSM303AH
Magnetometer; Library Part: IC`s.SchLib; Manufacturer: Würth Elektronik; IC Type: Sensor; Part Number: LSM303AH; Footprint Part: IC-package.PcbLib; Package: LGA-12; Part Type: IC; Component Type: SMD; Temperature Range: -40°C ~ 85°C (TA); URL: https://www.we-online.com/components/products/datasheet/2533020201601.pdf
footprint LGA-12 2533020201601
pins: 1 SCL, 2 CS_XL, 3 CS_MAG, 4 SDA, 5 C1, 6 GND, 7 DRDY, 8 GND, 9 VDD, 10 VDD_IO, 11 INT2, 12 INT1

## MAX253
designator U?
Вид: Мікросхема
footprint SO-8 (SOIC, 8-Leads, Body 4,90x3,90mm, Pitch 1,27mm, IPC Medium Density)
pins: 1 D1, 2 GND1, 3 FS, 4 ~{ON}/OFF, 6 VCC, 7 GND2, 8 D2

## MAX471
designator U?
Precision, High-Side, Current-Sense Amplifiers; Вид: Мікросхема
footprint SO-8 (SOIC, 8-Leads, Body 4,90x3,90mm, Pitch 1,27mm, IPC Medium Density)
pins: 1 SHDN (in), 2 RS+, 3 RS+, 4 GND (power), 5 SIGN (oc), 6 RS-, 7 RS-, 8 OUT (out)

## MAX472CSA
designator U?
Precision, High-Side, Current-Sense Amplifiers; Вид: Мікросхема
footprint SO-8 (SOIC, 8-Leads, Body 4,90x3,90mm, Pitch 1,27mm, IPC Medium Density)
pins: 1 SHDN (in), 2 NC, 3 RG1, 4 GND (power), 5 SIGN (oc), 6 RG2, 7 VCC, 8 OUT (out)

## MAX487E
designator DD?
Low-Power, Slew-Rate-Limited  RS-485/RS-422 Transceivers, SO-8; Вид: Мікросхема
footprint SO-8 (SOIC, 8-Leads, Body 4,90x3,90mm, Pitch 1,27mm, IPC Medium Density)
pins: 1 RO, 2 ~{RE}, 3 DE, 4 DI, 5 GND, 6 A (power), 7 B (power), 8 VCC

## MAX31820
designator D?
1-Wire Ambient Temperature Sensor; Вид: Мікросхема
pins: 1 GND, 2 DQ, 3 Vdd
text: TE

## MC33218A
designator U?
Voice Switched Speakerphone; Вид: Мікросхема
pins: 1, 2, 3, 4, 5, 6, 7, 8, 10, 11, 12, 13, 14, 15, 16, 17, 18, 19, 20, 21, 22, 23, 24
text: MISO; TAO; XDI; CP2; CPT; TLI; Mic; Tx Attenuator; Vb; Tx; BNM; TLO; Vcc; AGK; DR; Data; Register; DIN; and; Attenuator Control Circuit; Decode; CK; Tx-Rx Comp; Logic; POR; CT; Dial Tone; Detector; Vtn; CD; Bias; Rx; RXI; Rx Attenuator; GND; CPR; RLO; RLI; RAO; RXO

## MC33269DT-3.3
designator U?
low dropout positive voltage regulators; Вид: Мікросхема
footprint DPAK3
pins: 1 GND, 2 Vout, 3 Vin

## MC33269DT-ADJ
designator U?
low dropout adjustable positive voltage regulators; Вид: Мікросхема
footprint DPAK3
pins: 1 Adj, 2 Vout, 3 Vin

## MC34063
designator U?
DC-to-DC Converter Control Circuits; Вид: Мікросхема
footprint SO-8 (SOIC, 8-Leads, Body 4,90x3,90mm, Pitch 1,27mm, IPC Medium Density)
pins: 1 SWC (oc), 2 SWE, 3 CT, 4 GND (power), 5 CMPR (in), 6 VCC (power), 7 IPK (in), 8 DRVC (oc)

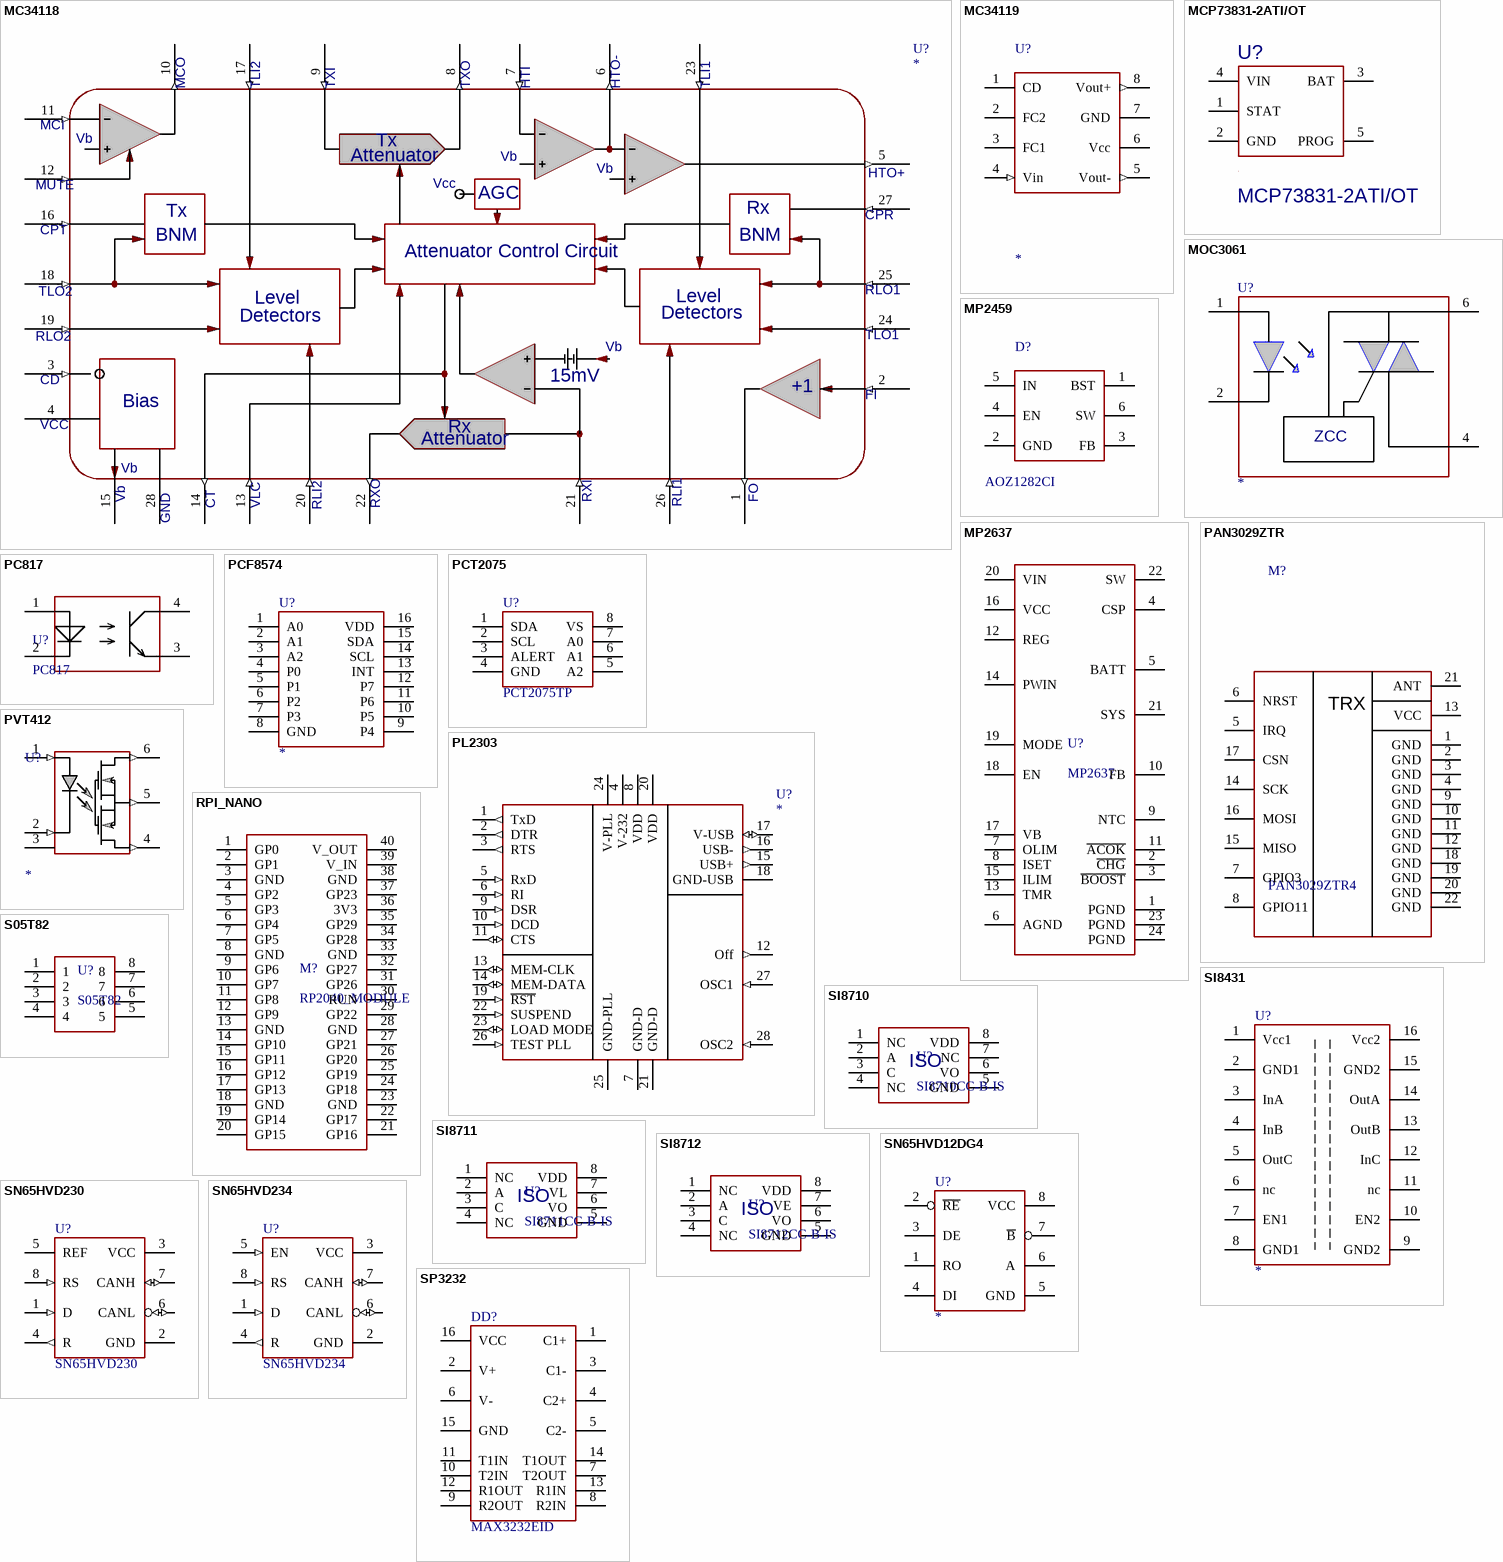
[diagram p6: symbols MC34118 to SP3232]

## MC34118
designator U?
Voice Switched Speakerphone; Вид: Мікросхема
pins: 1 FO (out), 2 FI (in), 3 CD (in), 4 VCC (power), 5 HTO+ (out), 6 HTO- (out), 7 HTI (in), 8 TXO (out), 9 TXI (in), 10 MCO (out), 11 MCI (in), 12 Mute (in), 13 VLC (in), 14 CT (out), 15 Vb (power), 16 CPT (in), 17 TLI (in), 18 TLO2 (in), 19 RLO2 (in), 20 RLI2 (in), 21 RXI (in), 22 RXO (out), 23 TLI1 (in), 24 TLO1 (in), 25 RLO1 (in), 26 RLI1 (in), 27 CPR (in), 28 GND (power)
text: TLI2; Tx; Attenuator; MUTE; Vcc; AGC; Rx; BNM; Attenuator Control Circuit; Level; Detectors; 15mV; +1; Bias

## MC34119
designator U?
low power audio amplifier; Вид: Мікросхема
footprint SO-8 (SOIC, 8-Leads, Body 4,90x3,90mm, Pitch 1,27mm, IPC Medium Density)
pins: 1 CD, 2 FC2, 3 FC1, 4 Vin (in), 5 Vout- (out), 6 Vcc (power), 7 GND (power), 8 Vout+ (out)

## MCP73831-2ATI/OT
designator U?
Library Part: IC`s.SchLib; Manufacturer: Texas Instruments; Man#Part Num#: TPS61023DRLT; Value: {Value}; Mounting  Method: SMD; IC Type: PMIC; Part Number: MCP73831-2ATI/OT; Footprint Part: IC-package.PcbLib; Package: SOT-563; Part Type: IC; Component Type: SMD; Temperature Range: -40°C ~ 125°C (TJ); URL: https://www.ti.com/general/docs/suppproductinfo.tsp?distId=10&gotoUrl=https%3A%2F%2Fwww.ti.com%2Flit%2Fgpn%2Ftps61023; Suplier 1: https://www.digikey.com.au/en/products/detail/texas-instruments/TPS61023DRLT/11310622?s=N4IgTCBcDaICoAUDKA2AjABjAZgCICUAZOEAXQF8g
footprint SOT23-5
pins: 1 STAT, 2 GND, 3 BAT, 4 VIN, 5 PROG

## MOC3061
designator U?
optoisolyator triac driver output; Вид: Мікросхема
pins: 1 A, 2 C, 4 MT1, 6 MT2
text: ZCC

## MP2459
designator D?, comment AOZ1282CI
1A Step-Down Switching Regulator; Вид: Мікросхема
footprint SOT-23-6
pins: 1 BST, 2 GND, 3 FB, 4 EN, 5 IN, 6 SW

## MP2637
designator U?
Вид: Мікросхема
footprint QFN24_MPS
pins: 1 PGND, 2 ~{CHG}, 3 ~{BOOST}, 4 CSP, 5 BATT, 6 AGND, 7 OLIM, 8 ISET, 9 NTC, 10 FB, 11 ~{ACOK}, 12 REG, 13 TMR, 14 PWIN, 15 ILIM, 16 VCC, 17 VB, 18 EN, 19 MODE, 20 VIN, 21 SYS, 22 SW, 23 PGND, 24 PGND

## PAN3029ZTR
designator M?, comment PAN3029ZTR4
footprint PAN3029ZTR (Small Outline No-Lead (SON), 1.27 mm pitch; 22 pin, 15.00 mm L X 15.00 mm W X 2.50 mm H body)
pins: 1 GND, 2 GND, 3 GND, 4 GND, 5 IRQ, 6 NRST, 7 GPIO3, 8 GPIO11, 9 GND, 10 GND, 11 GND, 12 GND, 13 VCC, 14 SCK, 15 MISO, 16 MOSI, 17 CSN, 18 GND, 19 GND, 20 GND, 21 ANT, 22 GND
text: TRX

## PC817
designator U?
Вид: Оптрон
footprint Model Name (Footprint not found)
pins: 1 A, 2 K, 3 E, 4 C

## PCF8574
designator U?
8-bit I/O expander for I2C-bus; Вид: Мікросхема
footprint SO-16 (SOIC, 16-Leads, Body 9,90x3,90mm, Pitch 1,27mm, IPC Medium Density)
pins: 1 A0, 2 A1, 3 A2, 4 P0, 5 P1, 6 P2, 7 P3, 8 GND (power), 9 P4, 10 P5, 11 P6, 12 P7, 13 INT, 14 SCL, 15 SDA, 16 VDD (power)

## PCT2075
designator U?, comment PCT2075TP
Вид: Мікросхема
footprint SOT1069-2
pins: 1 SDA, 2 SCL, 3 ALERT, 4 GND, 5 A2, 6 A1, 7 A0, 8 VS

## PL2303
designator U?
RS232/USB преобразователь; Вид: Мікросхема
footprint SSOP-28 (TSOP, 28-Leads, Body 9,70x4,40mm, Pitch 0,65mm, IPC Medium Density)
pins: 1 TxD (out), 2 DTR (out), 3 RTS (out), 4 V-232 (power), 5 RxD (in), 6 RI (in), 7 GND-D (power), 8 VDD (power), 9 DSR (in), 10 DCD (in), 11 CTS (io), 12 Off (out), 13 MEM-CLK (io), 14 MEM-DATA (io), 15 USB+ (out), 16 USB- (out), 17 V-USB (io), 18 GND-USB (power), 19 ~{RST} (in), 20 VDD (power), 21 GND-D (power), 22 SUSPEND (in), 23 LOAD MODE (io), 24 V-PLL (power), 25 GND-PLL (power), 26 TEST PLL (in), 27 OSC1 (in), 28 OSC2 (in)

## PVT412
designator U?
MOSFET Photovoltaic Relay; Вид: Мікросхема
footprint SMT6
pins: 1 anode (in), 2 katode (in), 3 nc, 4 DRAIN (out), 5 SOURCE (out), 6 DRAIN (out)

## RPI_NANO
designator M?, comment RP2040_MODULE
pins: 1 GP0, 2 GP1, 3 GND, 4 GP2, 5 GP3, 6 GP4, 7 GP5, 8 GND, 9 GP6, 10 GP7, 11 GP8, 12 GP9, 13 GND, 14 GP10, 15 GP11, 16 GP12, 17 GP13, 18 GND, 19 GP14, 20 GP15, 21 GP16, 22 GP17, 23 GND, 24 GP18, 25 GP19, 26 GP20, 27 GP21, 28 GND, 29 GP22, 30 RUN, 31 GP26, 32 GP27, 33 GND, 34 GP28, 35 GP29, 36 3V3, 37 GP23, 38 GND, 39 V_IN, 40 V_OUT

## S05T82
designator U?
Вид: Мікросхема
footprint SO-8 (SOIC, 8-Leads, Body 4,90x3,90mm, Pitch 1,27mm, IPC Medium Density)
pins: 1, 2, 3, 4, 5, 6, 7, 8

## SI8431
designator U?
Вид: Мікросхема
footprint SO-16W (SOIC, 16-Leads, Body 10,30x7,50mm, Pitch 1,27mm, IPC Medium Density)
pins: 1 Vcc1, 2 GND1, 3 InA, 4 InB, 5 OutC, 6 nc, 7 EN1, 8 GND1, 9 GND2, 10 EN2, 11 nc, 12 InC, 13 OutB, 14 OutA, 15 GND2, 16 Vcc2

## SI8710
designator U?, comment SI8710CC-B-IS
Вид: Мікросхема
footprint SO-8 (SOIC, 8-Leads, Body 4,90x3,90mm, Pitch 1,27mm, IPC Medium Density)
pins: 1 NC, 2 A, 3 C, 4 NC, 5 GND, 6 VO, 7 NC, 8 VDD
text: ISO

## SI8711
designator U?, comment SI8711CC-B-IS
Вид: Мікросхема
footprint SO-8 (SOIC, 8-Leads, Body 4,90x3,90mm, Pitch 1,27mm, IPC Medium Density)
pins: 1 NC, 2 A, 3 C, 4 NC, 5 GND, 6 VO, 7 VL, 8 VDD
text: ISO

## SI8712
designator U?, comment SI8712CC-B-IS
Вид: Мікросхема
footprint SO-8 (SOIC, 8-Leads, Body 4,90x3,90mm, Pitch 1,27mm, IPC Medium Density)
pins: 1 NC, 2 A, 3 C, 4 NC, 5 GND, 6 VO, 7 VE, 8 VDD
text: ISO

## SN65HVD12DG4
designator U?
Вид: Мікросхема
footprint SO-8 (SOIC, 8-Leads, Body 4,90x3,90mm, Pitch 1,27mm, IPC Medium Density)
pins: 1 RO, 2 ~{RE}, 3 DE, 4 DI, 5 GND, 6 A, 7 ~{B}, 8 VCC

## SN65HVD230
designator U?
3.3-V CAN Bus Transceivers; Вид: Мікросхема
footprint SO-8 (SOIC, 8-Leads, Body 4,90x3,90mm, Pitch 1,27mm, IPC Medium Density)
pins: 1 D (in), 2 GND (power), 3 VCC (power), 4 R (out), 5 REF, 6 CANL (io), 7 CANH (io), 8 RS (in)

## SN65HVD234
designator U?
3.3-V CAN Bus Transceivers; Вид: Мікросхема
footprint SO-8 (SOIC, 8-Leads, Body 4,90x3,90mm, Pitch 1,27mm, IPC Medium Density)
pins: 1 D (in), 2 GND (power), 3 VCC (power), 4 R (out), 5 EN (in), 6 CANL (io), 7 CANH (io), 8 RS (in)

## SP3232
designator DD?, comment MAX3232EID
RS-232  Line Driver/Receiver; Вид: Мікросхема
footprint SO-16 (SOIC, 16-Leads, Body 9,90x3,90mm, Pitch 1,27mm, IPC Medium Density)
footprint SSOP-16 (TSOP, 16-Leads, Body 5,00x4,40mm, Pitch 0,65mm, IPC Medium Density)
pins: 1 C1+, 2 V+, 3 C1-, 4 C2+, 5 C2-, 6 V-, 7 T2OUT, 8 R2IN, 9 R2OUT, 10 T2IN, 11 T1IN, 12 R1OUT, 13 R1IN, 14 T1OUT, 15 GND, 16 VCC

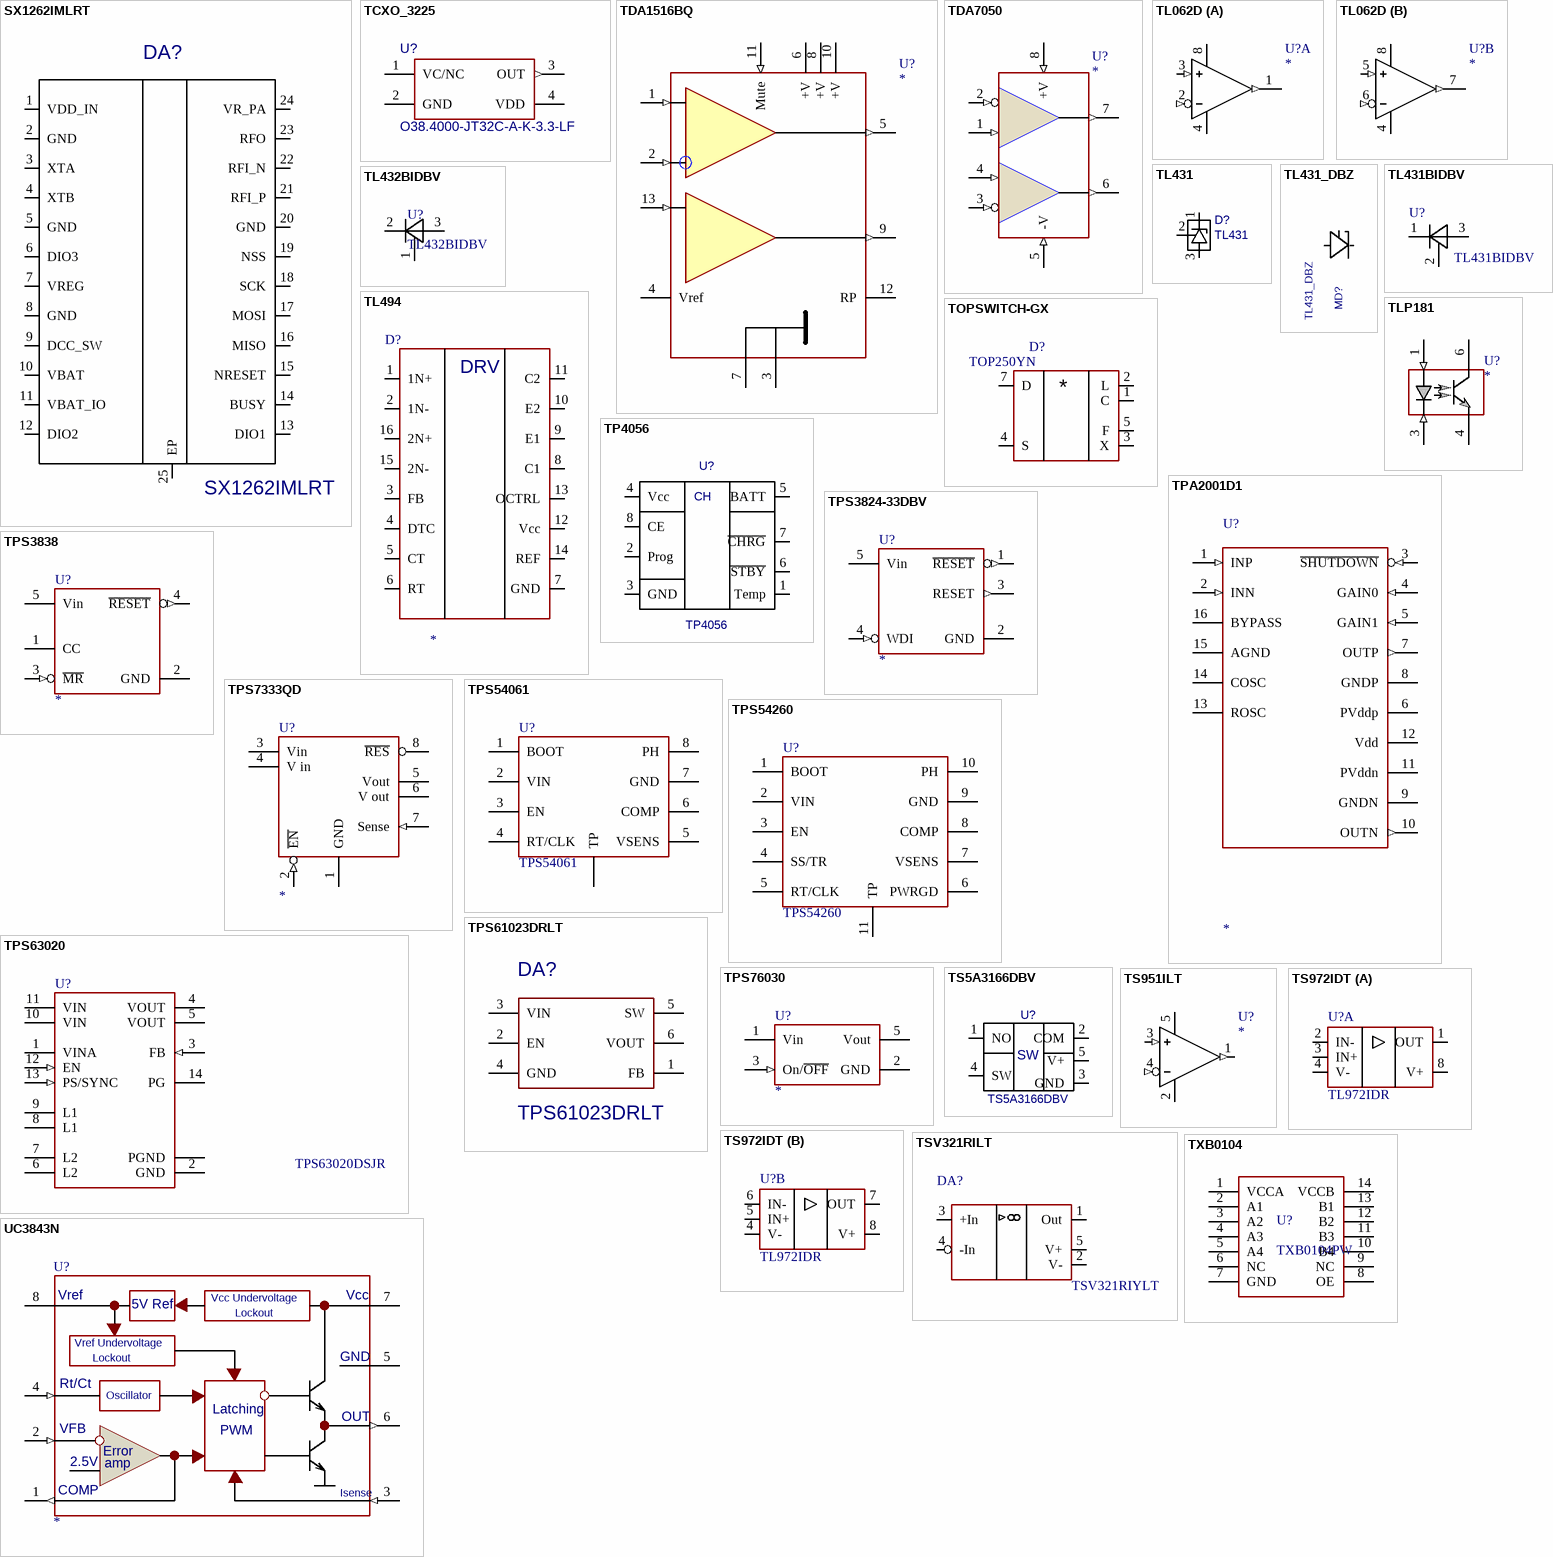
[diagram p7: symbols SX1262IMLRT to UC3843N]

## SX1262IMLRT
designator DA?
Value: {Value}; Mounting  Method: SMD
pins: 1 VDD_IN, 2 GND, 3 XTA, 4 XTB, 5 GND, 6 DIO3, 7 VREG, 8 GND, 9 DCC_SW, 10 VBAT, 11 VBAT_IO, 12 DIO2, 13 DIO1, 14 BUSY, 15 NRESET, 16 MISO, 17 MOSI, 18 SCK, 19 NSS, 20 GND, 21 RFI_P, 22 RFI_N, 23 RFO, 24 VR_PA, 25 EP

## TCXO_3225
designator U?, comment O38.4000-JT32C-A-K-3.3-LF
Вид: Мікросхема; Value: O38.4000-JT32C-A-K-3.3-LF
footprint ZQ_3.2_2.5
pins: 1 VC/NC, 2 GND (power), 3 OUT (out), 4 VDD (power)

## TDA1516BQ
designator U?
24 W BTL or 2 x 12 power amplifier; Вид: Мікросхема
footprint DBS13P(SOT141-6)
pins: 1 In1+ (in), 2 In1- (in), 3 S_GND (power), 4 Vref, 5 OUT1 (out), 6 +V (power), 7 GND (power), 8 +V (power), 9 OUT2 (out), 10 +V (power), 11 Mute (in), 12 RP, 13 In2+ (in)

## TDA7050
designator U?
Low voltage mono/stereo power amplifier; Вид: Мікросхема
footprint SO-8 (SOIC, 8-Leads, Body 4,90x3,90mm, Pitch 1,27mm, IPC Medium Density)
pins: 1 IN1+ (in), 2 IN1- (in), 3 IN2- (in), 4 IN2+ (in), 5 -V (in), 6 OUT2 (out), 7 OUT1 (out), 8 +V (in)

## TL062D
designator U?
operation amplifier; Вид: Мікросхема
footprint SO-8 (SOIC, 8-Leads, Body 4,90x3,90mm, Pitch 1,27mm, IPC Medium Density)
part A pins: 1 OUT (out), 2 -IN (in), 3 +IN (in), 4 V- (power), 8 V+ (power)
part B pins: 4 V-, 5 +IN (in), 6 -IN (in), 7 OUT (out), 8 V+

## TL431
designator D?
Value: *
footprint SOT23
pins: 1, 2, 3

## TL431_DBZ
designator MD?
footprint SOT23-3
pins: 1 C, 2 REF, 3 A

## TL431BIDBV
designator U?
ADJUSTABLE PRECISION SHUNT REGULATORS SOT89 (-40..85); Вид: Мікросхема
footprint SOT23 (SOT23, 3-Leads, Body 2,90x2,45mm, Pitch 0,95mm, IPC Medium Density)
pins: 1 C, 2 REF, 3 A

## TL432BIDBV
designator U?
Вид: Мікросхема
pins: 1 C, 2 REF, 3 A

## TL494
designator D?
Вид: Мікросхема
pins: 1 1N+, 2 1N-, 3 FB, 4 DTC, 5 CT, 6 RT, 7 GND (power), 8 C1, 9 E1, 10 E2, 11 C2, 12 Vcc (power), 13 OCTRL, 14 REF, 15 2N-, 16 2N+
text: DRV

## TLP181
designator U?
Optocoupler; Вид: Мікросхема
footprint SOP4
pins: 1 anode (in), 3 katode (in), 4 E, 6 K (oc)

## TOPSWITCH-GX
designator D?, comment TOP250YN
Extended Power, Design Flexible,  EcoSmart, Integrated Off-line Switcher, TO-220-7C; Вид: Мікросхема
pins: 1 C, 2 L (power), 3 X (power), 4 S, 5 F, 7 D

## TP4056
designator U?
Charger Accum; Value: *
footprint SO8
pins: 1 Temp, 2 Prog, 3 GND, 4 Vcc, 5 BATT, 6 ~{STBY}, 7 ~{CHRG}, 8 CE
text: CH

## TPA2001D1
designator U?
1-W FILTERLESS MONO AUDIO POWER AMPLIFIER; Вид: Мікросхема
footprint SSOP-16 (TSOP, 16-Leads, Body 5,00x4,40mm, Pitch 0,65mm, IPC Medium Density)
pins: 1 INP (in), 2 INN (in), 3 ~{SHUTDOWN} (in), 4 GAIN0 (in), 5 GAIN1 (in), 6 PVddp, 7 OUTP (out), 8 GNDP (power), 9 GNDN (power), 10 OUTN (out), 11 PVddn, 12 Vdd, 13 ROSC, 14 COSC, 15 AGND, 16 BYPASS

## TPS3824-33DBV
designator U?
Precision Supply Voltage Supervision whith Watchdog; Вид: Мікросхема
footprint SOT-23-5
pins: 1 ~{RESET} (out), 2 GND (power), 3 RESET (out), 4 WDI (in), 5 Vin (power)

## TPS3838
designator U?
Precision Supply Voltage Supervision; Вид: Мікросхема
footprint SOT-23-5
pins: 1 CC, 2 GND (power), 3 ~{MR} (in), 4 ~{RESET} (out), 5 Vin (power)

## TPS7333QD
designator U?
low drop out voltage regulyator with supervisor; Вид: Мікросхема
footprint SO-8 (SOIC, 8-Leads, Body 4,90x3,90mm, Pitch 1,27mm, IPC Medium Density)
pins: 1 GND (power), 2 ~{EN} (in), 3 Vin (power), 4 V in (power), 5 Vout (power), 6 V out (power), 7 Sense (in), 8 ~{RES} (oc)

## TPS54061
designator U?
200 mA Step-Down Switching Regulator; Вид: Мікросхема
footprint QFN-8-3.15X3.15
pins: 1 BOOT, 2 VIN, 3 EN, 4 RT/CLK, 5 VSENS, 6 COMP, 7 GND, 8 PH, 9 TP

## TPS54260
designator U?
2.5A Step-Down Switching Regulator; Вид: Мікросхема
footprint S-PDSO-G10 (MSOP-10)
pins: 1 BOOT, 2 VIN, 3 EN, 4 SS/TR, 5 RT/CLK, 6 PWRGD, 7 VSENS, 8 COMP, 9 GND, 10 PH, 11 TP